# Altium schematic symbol library MCU_ST_STM32L4.SchLib: 320 symbols (part 6 of 9)
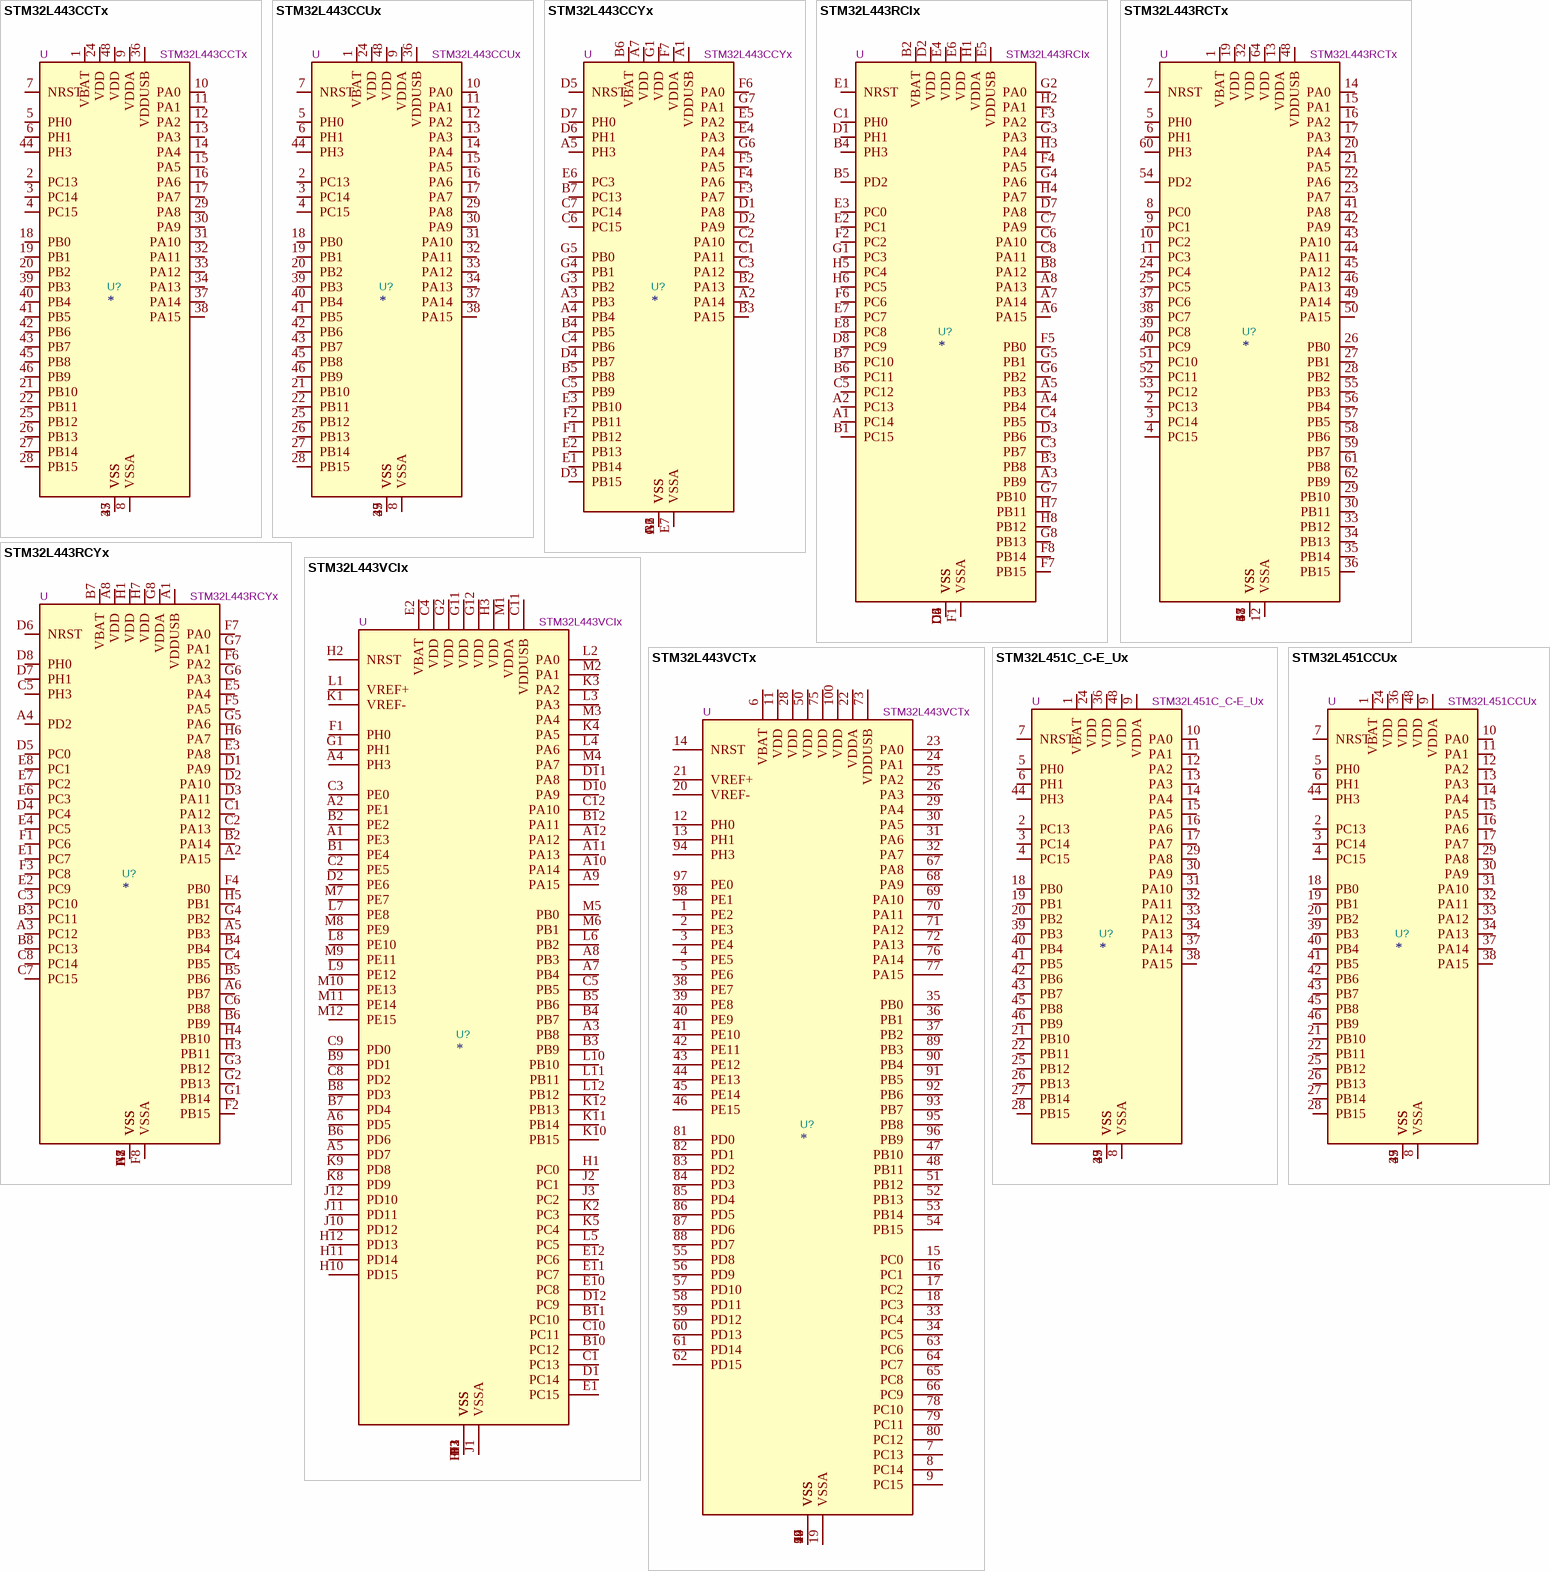
[diagram p68: symbols STM32L443CCTx to STM32L451CCUx]

## STM32L443CCTx
designator U?  value STM32L443CCTx  Reference: U
STMicroelectronics Arm Cortex-M4 MCU, 256KB flash, 64KB RAM, 80 MHz, 1.71-3.6V, 38 GPIO, LQFP48; ki_keywords: Arm Cortex-M4 STM32L4 STM32L4x3; ki_fp_filters: LQFP*7x7mm*P0.5mm*; Footprint: Package_QFP:LQFP-48_7x7mm_P0.5mm; Datasheet: https://www.st.com/resource/en/datasheet/stm32l443cc.pdf; Description_: STMicroelectronics Arm Cortex-M4 MCU, 256KB flash, 64KB RAM, 80 MHz, 1.71-3.6V, 38 GPIO, LQFP48
pins: 1 VBAT, 2 PC13, 3 PC14, 4 PC15, 5 PH0, 6 PH1, 7 NRST, 8 VSSA, 9 VDDA, 10 PA0, 11 PA1, 12 PA2, 13 PA3, 14 PA4, 15 PA5, 16 PA6, 17 PA7, 18 PB0, 19 PB1, 20 PB2, 21 PB10, 22 PB11, 23 VSS, 24 VDD, 25 PB12, 26 PB13, 27 PB14, 28 PB15, 29 PA8, 30 PA9, 31 PA10, 32 PA11, 33 PA12, 34 PA13, 35 VSS, 36 VDDUSB, 37 PA14, 38 PA15, 39 PB3, 40 PB4, 41 PB5, 42 PB6, 43 PB7, 44 PH3, 45 PB8, 46 PB9, 47 VSS, 48 VDD

## STM32L443CCUx
designator U?  value STM32L443CCUx  Reference: U
STMicroelectronics Arm Cortex-M4 MCU, 256KB flash, 64KB RAM, 80 MHz, 1.71-3.6V, 38 GPIO, UFQFPN48; ki_keywords: Arm Cortex-M4 STM32L4 STM32L4x3; ki_fp_filters: QFN*1EP*7x7mm*P0.5mm*; Footprint: Package_DFN_QFN:QFN-48-1EP_7x7mm_P0.5mm_EP5.6x5.6mm; Datasheet: https://www.st.com/resource/en/datasheet/stm32l443cc.pdf; Description_: STMicroelectronics Arm Cortex-M4 MCU, 256KB flash, 64KB RAM, 80 MHz, 1.71-3.6V, 38 GPIO, UFQFPN48
pins: 1 VBAT, 2 PC13, 3 PC14, 4 PC15, 5 PH0, 6 PH1, 7 NRST, 8 VSSA, 9 VDDA, 10 PA0, 11 PA1, 12 PA2, 13 PA3, 14 PA4, 15 PA5, 16 PA6, 17 PA7, 18 PB0, 19 PB1, 20 PB2, 21 PB10, 22 PB11, 23 VSS, 24 VDD, 25 PB12, 26 PB13, 27 PB14, 28 PB15, 29 PA8, 30 PA9, 31 PA10, 32 PA11, 33 PA12, 34 PA13, 35 VSS, 36 VDDUSB, 37 PA14, 38 PA15, 39 PB3, 40 PB4, 41 PB5, 42 PB6, 43 PB7, 44 PH3, 45 PB8, 46 PB9, 47 VSS, 48 VDD, 49 VSS

## STM32L443CCYx
designator U?  value STM32L443CCYx  Reference: U
STMicroelectronics Arm Cortex-M4 MCU, 256KB flash, 64KB RAM, 80 MHz, 1.71-3.6V, 39 GPIO, WLCSP49; ki_keywords: Arm Cortex-M4 STM32L4 STM32L4x3; ki_fp_filters: ST*WLCSP*Die435*; Footprint: Package_CSP:ST_WLCSP-49_Die435; Datasheet: https://www.st.com/resource/en/datasheet/stm32l443cc.pdf; Description_: STMicroelectronics Arm Cortex-M4 MCU, 256KB flash, 64KB RAM, 80 MHz, 1.71-3.6V, 39 GPIO, WLCSP49
pins: A1 VDDUSB, A2 PA14, A3 PB3, A4 PB4, A5 PH3, A6 VSS, A7 VDD, B1 VSS, B2 PA13, B3 PA15, B4 PB5, B5 PB8, B6 VBAT, B7 PC13, C1 PA11, C2 PA10, C3 PA12, C4 PB6, C5 PB9, C6 PC15, C7 PC14, D1 PA8, D2 PA9, D3 PB15, D4 PB7, D5 NRST, D6 PH1, D7 PH0, E1 PB14, E2 PB13, E3 PB10, E4 PA3, E5 PA2, E6 PC3, E7 VSSA, F1 PB12, F2 PB11, F3 PA7, F4 PA6, F5 PA5, F6 PA0, F7 VDDA, G1 VDD, G2 VSS, G3 PB2, G4 PB1, G5 PB0, G6 PA4, G7 PA1

## STM32L443RCIx
designator U?  value STM32L443RCIx  Reference: U
STMicroelectronics Arm Cortex-M4 MCU, 256KB flash, 64KB RAM, 80 MHz, 1.71-3.6V, 52 GPIO, UFBGA64; ki_keywords: Arm Cortex-M4 STM32L4 STM32L4x3; ki_fp_filters: UFBGA*5x5mm*Layout8x8*P0.5mm*; Footprint: Package_BGA:UFBGA-64_5x5mm_Layout8x8_P0.5mm; Datasheet: https://www.st.com/resource/en/datasheet/stm32l443rc.pdf; Description_: STMicroelectronics Arm Cortex-M4 MCU, 256KB flash, 64KB RAM, 80 MHz, 1.71-3.6V, 52 GPIO, UFBGA64
pins: A1 PC14, A2 PC13, A3 PB9, A4 PB4, A5 PB3, A6 PA15, A7 PA14, A8 PA13, B1 PC15, B2 VBAT, B3 PB8, B4 PH3, B5 PD2, B6 PC11, B7 PC10, B8 PA12, C1 PH0, C2 VSS, C3 PB7, C4 PB5, C5 PC12, C6 PA10, C7 PA9, C8 PA11, D1 PH1, D2 VDD, D3 PB6, D4 VSS, D5 VSS, D6 VSS, D7 PA8, D8 PC9, E1 NRST, E2 PC1, E3 PC0, E4 VDD, E5 VDDUSB, E6 VDD, E7 PC7, E8 PC8, F1 VSSA, F2 PC2, F3 PA2, F4 PA5, F5 PB0, F6 PC6, F7 PB15, F8 PB14, G1 PC3, G2 PA0, G3 PA3, G4 PA6, G5 PB1, G6 PB2, G7 PB10, G8 PB13, H1 VDDA, H2 PA1, H3 PA4, H4 PA7, H5 PC4, H6 PC5, H7 PB11, H8 PB12

## STM32L443RCTx
designator U?  value STM32L443RCTx  Reference: U
STMicroelectronics Arm Cortex-M4 MCU, 256KB flash, 64KB RAM, 80 MHz, 1.71-3.6V, 52 GPIO, LQFP64; ki_keywords: Arm Cortex-M4 STM32L4 STM32L4x3; ki_fp_filters: LQFP*10x10mm*P0.5mm*; Footprint: Package_QFP:LQFP-64_10x10mm_P0.5mm; Datasheet: https://www.st.com/resource/en/datasheet/stm32l443rc.pdf; Description_: STMicroelectronics Arm Cortex-M4 MCU, 256KB flash, 64KB RAM, 80 MHz, 1.71-3.6V, 52 GPIO, LQFP64
pins: 1 VBAT, 2 PC13, 3 PC14, 4 PC15, 5 PH0, 6 PH1, 7 NRST, 8 PC0, 9 PC1, 10 PC2, 11 PC3, 12 VSSA, 13 VDDA, 14 PA0, 15 PA1, 16 PA2, 17 PA3, 18 VSS, 19 VDD, 20 PA4, 21 PA5, 22 PA6, 23 PA7, 24 PC4, 25 PC5, 26 PB0, 27 PB1, 28 PB2, 29 PB10, 30 PB11, 31 VSS, 32 VDD, 33 PB12, 34 PB13, 35 PB14, 36 PB15, 37 PC6, 38 PC7, 39 PC8, 40 PC9, 41 PA8, 42 PA9, 43 PA10, 44 PA11, 45 PA12, 46 PA13, 47 VSS, 48 VDDUSB, 49 PA14, 50 PA15, 51 PC10, 52 PC11, 53 PC12, 54 PD2, 55 PB3, 56 PB4, 57 PB5, 58 PB6, 59 PB7, 60 PH3, 61 PB8, 62 PB9, 63 VSS, 64 VDD

## STM32L443RCYx
designator U?  value STM32L443RCYx  Reference: U
STMicroelectronics Arm Cortex-M4 MCU, 256KB flash, 64KB RAM, 80 MHz, 1.71-3.6V, 52 GPIO, WLCSP64; ki_keywords: Arm Cortex-M4 STM32L4 STM32L4x3; ki_fp_filters: ST*WLCSP*Die435*; Footprint: Package_CSP:ST_WLCSP-64_Die435; Datasheet: https://www.st.com/resource/en/datasheet/stm32l443rc.pdf; Description_: STMicroelectronics Arm Cortex-M4 MCU, 256KB flash, 64KB RAM, 80 MHz, 1.71-3.6V, 52 GPIO, WLCSP64
pins: A1 VDDUSB, A2 PA15, A3 PC12, A4 PD2, A5 PB3, A6 PB7, A7 VSS, A8 VDD, B1 VSS, B2 PA14, B3 PC11, B4 PB4, B5 PB6, B6 PB9, B7 VBAT, B8 PC13, C1 PA12, C2 PA13, C3 PC10, C4 PB5, C5 PH3, C6 PB8, C7 PC15, C8 PC14, D1 PA9, D2 PA10, D3 PA11, D4 PC4, D5 PC0, D6 NRST, D7 PH1, D8 PH0, E1 PC7, E2 PC9, E3 PA8, E4 PC5, E5 PA4, E6 PC3, E7 PC2, E8 PC1, F1 PC6, F2 PB15, F3 PC8, F4 PB0, F5 PA5, F6 PA2, F7 PA0, F8 VSSA, G1 PB14, G2 PB13, G3 PB12, G4 PB2, G5 PA6, G6 PA3, G7 PA1, G8 VDDA, H1 VDD, H2 VSS, H3 PB11, H4 PB10, H5 PB1, H6 PA7, H7 VDD, H8 VSS

## STM32L443VCIx
designator U?  value STM32L443VCIx  Reference: U
STMicroelectronics Arm Cortex-M4 MCU, 256KB flash, 64KB RAM, 80 MHz, 1.71-3.6V, 83 GPIO, UFBGA100; ki_keywords: Arm Cortex-M4 STM32L4 STM32L4x3; ki_fp_filters: UFBGA*7x7mm*Layout12x12*P0.5mm*; Footprint: Package_BGA:UFBGA-100_7x7mm_Layout12x12_P0.5mm; Datasheet: https://www.st.com/resource/en/datasheet/stm32l443vc.pdf; Description_: STMicroelectronics Arm Cortex-M4 MCU, 256KB flash, 64KB RAM, 80 MHz, 1.71-3.6V, 83 GPIO, UFBGA100
pins: A1 PE3, A2 PE1, A3 PB8, A4 PH3, A5 PD7, A6 PD5, A7 PB4, A8 PB3, A9 PA15, A10 PA14, A11 PA13, A12 PA12, B1 PE4, B2 PE2, B3 PB9, B4 PB7, B5 PB6, B6 PD6, B7 PD4, B8 PD3, B9 PD1, B10 PC12, B11 PC10, B12 PA11, C1 PC13, C2 PE5, C3 PE0, C4 VDD, C5 PB5, C8 PD2, C9 PD0, C10 PC11, C11 VDDUSB, C12 PA10, D1 PC14, D2 PE6, D3 VSS, D10 PA9, D11 PA8, D12 PC9, E1 PC15, E2 VBAT, E3 VSS, E10 PC8, E11 PC7, E12 PC6, F1 PH0, F2 VSS, F11 VSS, F12 VSS, G1 PH1, G2 VDD, G11 VDD, G12 VDD, H1 PC0, H2 NRST, H3 VDD, H10 PD15, H11 PD14, H12 PD13, J1 VSSA, J2 PC1, J3 PC2, J10 PD12, J11 PD11, J12 PD10, K1 VREF-, K2 PC3, K3 PA2, K4 PA5, K5 PC4, K8 PD9, K9 PD8, K10 PB15, K11 PB14, K12 PB13, L1 VREF+, L2 PA0, L3 PA3, L4 PA6, L5 PC5, L6 PB2, L7 PE8, L8 PE10, L9 PE12, L10 PB10, L11 PB11, L12 PB12, M1 VDDA, M2 PA1, M3 PA4, M4 PA7, M5 PB0, M6 PB1, M7 PE7, M8 PE9, M9 PE11, M10 PE13, M11 PE14, M12 PE15

## STM32L443VCTx
designator U?  value STM32L443VCTx  Reference: U
STMicroelectronics Arm Cortex-M4 MCU, 256KB flash, 64KB RAM, 80 MHz, 1.71-3.6V, 83 GPIO, LQFP100; ki_keywords: Arm Cortex-M4 STM32L4 STM32L4x3; ki_fp_filters: LQFP*14x14mm*P0.5mm*; Footprint: Package_QFP:LQFP-100_14x14mm_P0.5mm; Datasheet: https://www.st.com/resource/en/datasheet/stm32l443vc.pdf; Description_: STMicroelectronics Arm Cortex-M4 MCU, 256KB flash, 64KB RAM, 80 MHz, 1.71-3.6V, 83 GPIO, LQFP100
pins: 1 PE2, 2 PE3, 3 PE4, 4 PE5, 5 PE6, 6 VBAT, 7 PC13, 8 PC14, 9 PC15, 10 VSS, 11 VDD, 12 PH0, 13 PH1, 14 NRST, 15 PC0, 16 PC1, 17 PC2, 18 PC3, 19 VSSA, 20 VREF-, 21 VREF+, 22 VDDA, 23 PA0, 24 PA1, 25 PA2, 26 PA3, 27 VSS, 28 VDD, 29 PA4, 30 PA5, 31 PA6, 32 PA7, 33 PC4, 34 PC5, 35 PB0, 36 PB1, 37 PB2, 38 PE7, 39 PE8, 40 PE9, 41 PE10, 42 PE11, 43 PE12, 44 PE13, 45 PE14, 46 PE15, 47 PB10, 48 PB11, 49 VSS, 50 VDD, 51 PB12, 52 PB13, 53 PB14, 54 PB15, 55 PD8, 56 PD9, 57 PD10, 58 PD11, 59 PD12, 60 PD13, 61 PD14, 62 PD15, 63 PC6, 64 PC7, 65 PC8, 66 PC9, 67 PA8, 68 PA9, 69 PA10, 70 PA11, 71 PA12, 72 PA13, 73 VDDUSB, 74 VSS, 75 VDD, 76 PA14, 77 PA15, 78 PC10, 79 PC11, 80 PC12, 81 PD0, 82 PD1, 83 PD2, 84 PD3, 85 PD4, 86 PD5, 87 PD6, 88 PD7, 89 PB3, 90 PB4, 91 PB5, 92 PB6, 93 PB7, 94 PH3, 95 PB8, 96 PB9, 97 PE0, 98 PE1, 99 VSS, 100 VDD

## STM32L451C_C-E_Ux
designator U?  value STM32L451C_C-E_Ux  Reference: U
STMicroelectronics Arm Cortex-M4 MCU, 256-512KB flash, 160KB RAM, 80 MHz, 1.71-3.6V, 38 GPIO, UFQFPN48; ki_keywords: Arm Cortex-M4 STM32L4 STM32L4x1; ki_fp_filters: QFN*1EP*7x7mm*P0.5mm*; Footprint: Package_DFN_QFN:QFN-48-1EP_7x7mm_P0.5mm_EP5.6x5.6mm; Datasheet: https://www.st.com/resource/en/datasheet/stm32l451cc.pdf; Description_: STMicroelectronics Arm Cortex-M4 MCU, 256-512KB flash, 160KB RAM, 80 MHz, 1.71-3.6V, 38 GPIO, UFQFPN48
pins: 1 VBAT, 2 PC13, 3 PC14, 4 PC15, 5 PH0, 6 PH1, 7 NRST, 8 VSSA, 9 VDDA, 10 PA0, 11 PA1, 12 PA2, 13 PA3, 14 PA4, 15 PA5, 16 PA6, 17 PA7, 18 PB0, 19 PB1, 20 PB2, 21 PB10, 22 PB11, 23 VSS, 24 VDD, 25 PB12, 26 PB13, 27 PB14, 28 PB15, 29 PA8, 30 PA9, 31 PA10, 32 PA11, 33 PA12, 34 PA13, 35 VSS, 36 VDD, 37 PA14, 38 PA15, 39 PB3, 40 PB4, 41 PB5, 42 PB6, 43 PB7, 44 PH3, 45 PB8, 46 PB9, 47 VSS, 48 VDD, 49 VSS

## STM32L451CCUx
designator U?  value STM32L451CCUx  Reference: U
STMicroelectronics Arm Cortex-M4 MCU, 256KB flash, 160KB RAM, 80 MHz, 1.71-3.6V, 38 GPIO, UFQFPN48; ki_keywords: Arm Cortex-M4 STM32L4 STM32L4x1; ki_fp_filters: QFN*1EP*7x7mm*P0.5mm*; Footprint: Package_DFN_QFN:QFN-48-1EP_7x7mm_P0.5mm_EP5.6x5.6mm; Datasheet: https://www.st.com/resource/en/datasheet/stm32l451cc.pdf; Description_: STMicroelectronics Arm Cortex-M4 MCU, 256KB flash, 160KB RAM, 80 MHz, 1.71-3.6V, 38 GPIO, UFQFPN48
pins: 1 VBAT, 2 PC13, 3 PC14, 4 PC15, 5 PH0, 6 PH1, 7 NRST, 8 VSSA, 9 VDDA, 10 PA0, 11 PA1, 12 PA2, 13 PA3, 14 PA4, 15 PA5, 16 PA6, 17 PA7, 18 PB0, 19 PB1, 20 PB2, 21 PB10, 22 PB11, 23 VSS, 24 VDD, 25 PB12, 26 PB13, 27 PB14, 28 PB15, 29 PA8, 30 PA9, 31 PA10, 32 PA11, 33 PA12, 34 PA13, 35 VSS, 36 VDD, 37 PA14, 38 PA15, 39 PB3, 40 PB4, 41 PB5, 42 PB6, 43 PB7, 44 PH3, 45 PB8, 46 PB9, 47 VSS, 48 VDD, 49 VSS

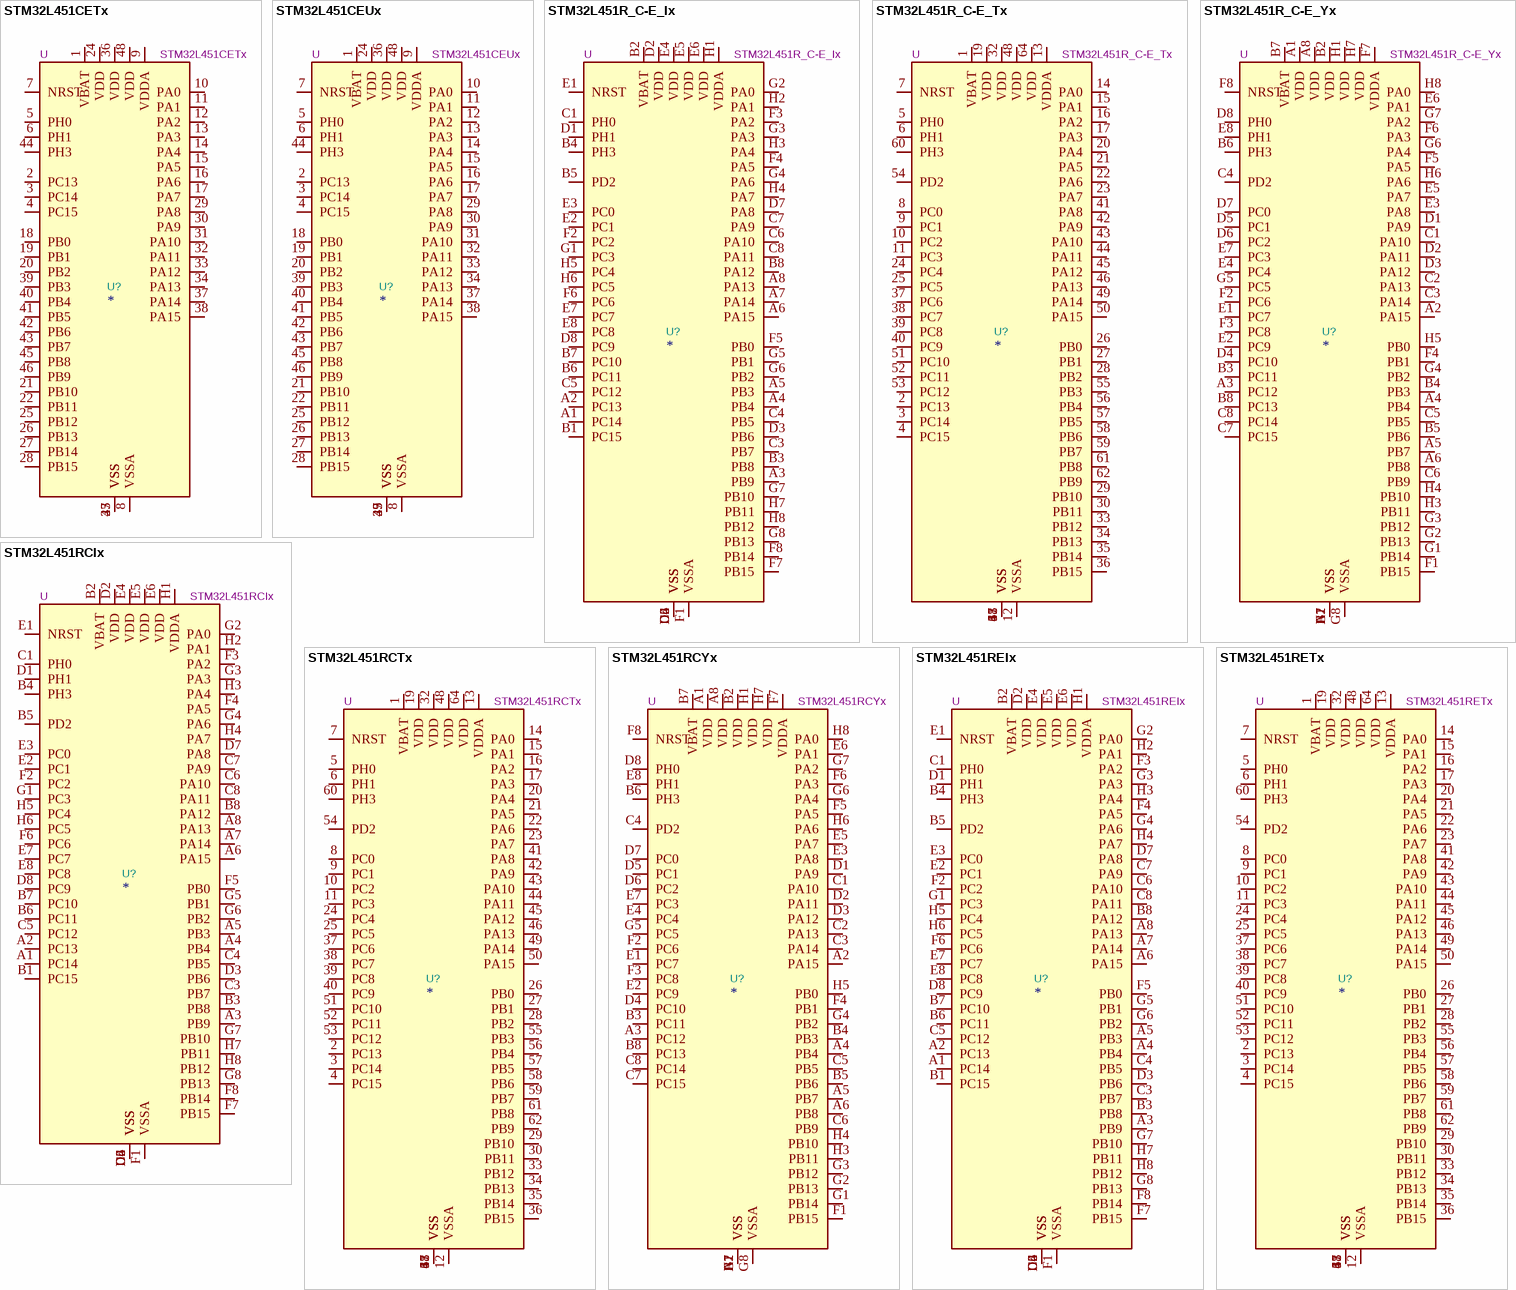
[diagram p40: symbols STM32L451CETx to STM32L451RETx]

## STM32L451CETx
designator U?  value STM32L451CETx  Reference: U
STMicroelectronics Arm Cortex-M4 MCU, 512KB flash, 160KB RAM, 80 MHz, 1.71-3.6V, 38 GPIO, LQFP48; ki_keywords: Arm Cortex-M4 STM32L4 STM32L4x1; ki_fp_filters: LQFP*7x7mm*P0.5mm*; Footprint: Package_QFP:LQFP-48_7x7mm_P0.5mm; Datasheet: https://www.st.com/resource/en/datasheet/stm32l451ce.pdf; Description_: STMicroelectronics Arm Cortex-M4 MCU, 512KB flash, 160KB RAM, 80 MHz, 1.71-3.6V, 38 GPIO, LQFP48
pins: 1 VBAT, 2 PC13, 3 PC14, 4 PC15, 5 PH0, 6 PH1, 7 NRST, 8 VSSA, 9 VDDA, 10 PA0, 11 PA1, 12 PA2, 13 PA3, 14 PA4, 15 PA5, 16 PA6, 17 PA7, 18 PB0, 19 PB1, 20 PB2, 21 PB10, 22 PB11, 23 VSS, 24 VDD, 25 PB12, 26 PB13, 27 PB14, 28 PB15, 29 PA8, 30 PA9, 31 PA10, 32 PA11, 33 PA12, 34 PA13, 35 VSS, 36 VDD, 37 PA14, 38 PA15, 39 PB3, 40 PB4, 41 PB5, 42 PB6, 43 PB7, 44 PH3, 45 PB8, 46 PB9, 47 VSS, 48 VDD

## STM32L451CEUx
designator U?  value STM32L451CEUx  Reference: U
STMicroelectronics Arm Cortex-M4 MCU, 512KB flash, 160KB RAM, 80 MHz, 1.71-3.6V, 38 GPIO, UFQFPN48; ki_keywords: Arm Cortex-M4 STM32L4 STM32L4x1; ki_fp_filters: QFN*1EP*7x7mm*P0.5mm*; Footprint: Package_DFN_QFN:QFN-48-1EP_7x7mm_P0.5mm_EP5.6x5.6mm; Datasheet: https://www.st.com/resource/en/datasheet/stm32l451ce.pdf; Description_: STMicroelectronics Arm Cortex-M4 MCU, 512KB flash, 160KB RAM, 80 MHz, 1.71-3.6V, 38 GPIO, UFQFPN48
pins: 1 VBAT, 2 PC13, 3 PC14, 4 PC15, 5 PH0, 6 PH1, 7 NRST, 8 VSSA, 9 VDDA, 10 PA0, 11 PA1, 12 PA2, 13 PA3, 14 PA4, 15 PA5, 16 PA6, 17 PA7, 18 PB0, 19 PB1, 20 PB2, 21 PB10, 22 PB11, 23 VSS, 24 VDD, 25 PB12, 26 PB13, 27 PB14, 28 PB15, 29 PA8, 30 PA9, 31 PA10, 32 PA11, 33 PA12, 34 PA13, 35 VSS, 36 VDD, 37 PA14, 38 PA15, 39 PB3, 40 PB4, 41 PB5, 42 PB6, 43 PB7, 44 PH3, 45 PB8, 46 PB9, 47 VSS, 48 VDD, 49 VSS

## STM32L451R_C-E_Ix
designator U?  value STM32L451R_C-E_Ix  Reference: U
STMicroelectronics Arm Cortex-M4 MCU, 256-512KB flash, 160KB RAM, 80 MHz, 1.71-3.6V, 52 GPIO, UFBGA64; ki_keywords: Arm Cortex-M4 STM32L4 STM32L4x1; ki_fp_filters: UFBGA*5x5mm*Layout8x8*P0.5mm*; Footprint: Package_BGA:UFBGA-64_5x5mm_Layout8x8_P0.5mm; Datasheet: https://www.st.com/resource/en/datasheet/stm32l451rc.pdf; Description_: STMicroelectronics Arm Cortex-M4 MCU, 256-512KB flash, 160KB RAM, 80 MHz, 1.71-3.6V, 52 GPIO, UFBGA64
pins: A1 PC14, A2 PC13, A3 PB9, A4 PB4, A5 PB3, A6 PA15, A7 PA14, A8 PA13, B1 PC15, B2 VBAT, B3 PB8, B4 PH3, B5 PD2, B6 PC11, B7 PC10, B8 PA12, C1 PH0, C2 VSS, C3 PB7, C4 PB5, C5 PC12, C6 PA10, C7 PA9, C8 PA11, D1 PH1, D2 VDD, D3 PB6, D4 VSS, D5 VSS, D6 VSS, D7 PA8, D8 PC9, E1 NRST, E2 PC1, E3 PC0, E4 VDD, E5 VDD, E6 VDD, E7 PC7, E8 PC8, F1 VSSA, F2 PC2, F3 PA2, F4 PA5, F5 PB0, F6 PC6, F7 PB15, F8 PB14, G1 PC3, G2 PA0, G3 PA3, G4 PA6, G5 PB1, G6 PB2, G7 PB10, G8 PB13, H1 VDDA, H2 PA1, H3 PA4, H4 PA7, H5 PC4, H6 PC5, H7 PB11, H8 PB12

## STM32L451R_C-E_Tx
designator U?  value STM32L451R_C-E_Tx  Reference: U
STMicroelectronics Arm Cortex-M4 MCU, 256-512KB flash, 160KB RAM, 80 MHz, 1.71-3.6V, 52 GPIO, LQFP64; ki_keywords: Arm Cortex-M4 STM32L4 STM32L4x1; ki_fp_filters: LQFP*10x10mm*P0.5mm*; Footprint: Package_QFP:LQFP-64_10x10mm_P0.5mm; Datasheet: https://www.st.com/resource/en/datasheet/stm32l451rc.pdf; Description_: STMicroelectronics Arm Cortex-M4 MCU, 256-512KB flash, 160KB RAM, 80 MHz, 1.71-3.6V, 52 GPIO, LQFP64
pins: 1 VBAT, 2 PC13, 3 PC14, 4 PC15, 5 PH0, 6 PH1, 7 NRST, 8 PC0, 9 PC1, 10 PC2, 11 PC3, 12 VSSA, 13 VDDA, 14 PA0, 15 PA1, 16 PA2, 17 PA3, 18 VSS, 19 VDD, 20 PA4, 21 PA5, 22 PA6, 23 PA7, 24 PC4, 25 PC5, 26 PB0, 27 PB1, 28 PB2, 29 PB10, 30 PB11, 31 VSS, 32 VDD, 33 PB12, 34 PB13, 35 PB14, 36 PB15, 37 PC6, 38 PC7, 39 PC8, 40 PC9, 41 PA8, 42 PA9, 43 PA10, 44 PA11, 45 PA12, 46 PA13, 47 VSS, 48 VDD, 49 PA14, 50 PA15, 51 PC10, 52 PC11, 53 PC12, 54 PD2, 55 PB3, 56 PB4, 57 PB5, 58 PB6, 59 PB7, 60 PH3, 61 PB8, 62 PB9, 63 VSS, 64 VDD

## STM32L451R_C-E_Yx
designator U?  value STM32L451R_C-E_Yx  Reference: U
STMicroelectronics Arm Cortex-M4 MCU, 256-512KB flash, 160KB RAM, 80 MHz, 1.71-3.6V, 52 GPIO, WLCSP64; ki_keywords: Arm Cortex-M4 STM32L4 STM32L4x1; ki_fp_filters: ST*WLCSP*Die462*; Footprint: Package_CSP:ST_WLCSP-64_Die462; Datasheet: https://www.st.com/resource/en/datasheet/stm32l451rc.pdf; Description_: STMicroelectronics Arm Cortex-M4 MCU, 256-512KB flash, 160KB RAM, 80 MHz, 1.71-3.6V, 52 GPIO, WLCSP64
pins: A1 VDD, A2 PA15, A3 PC12, A4 PB4, A5 PB7, A6 PB8, A7 VSS, A8 VDD, B1 VSS, B2 VDD, B3 PC11, B4 PB3, B5 PB6, B6 PH3, B7 VBAT, B8 PC13, C1 PA10, C2 PA13, C3 PA14, C4 PD2, C5 PB5, C6 PB9, C7 PC15, C8 PC14, D1 PA9, D2 PA11, D3 PA12, D4 PC10, D5 PC1, D6 PC2, D7 PC0, D8 PH0, E1 PC7, E2 PC9, E3 PA8, E4 PC4, E5 PA7, E6 PA1, E7 PC3, E8 PH1, F1 PB15, F2 PC6, F3 PC8, F4 PB1, F5 PA5, F6 PA3, F7 VDDA, F8 NRST, G1 PB14, G2 PB13, G3 PB12, G4 PB2, G5 PC5, G6 PA4, G7 PA2, G8 VSSA, H1 VDD, H2 VSS, H3 PB11, H4 PB10, H5 PB0, H6 PA6, H7 VDD, H8 PA0

## STM32L451RCIx
designator U?  value STM32L451RCIx  Reference: U
STMicroelectronics Arm Cortex-M4 MCU, 256KB flash, 160KB RAM, 80 MHz, 1.71-3.6V, 52 GPIO, UFBGA64; ki_keywords: Arm Cortex-M4 STM32L4 STM32L4x1; ki_fp_filters: UFBGA*5x5mm*Layout8x8*P0.5mm*; Footprint: Package_BGA:UFBGA-64_5x5mm_Layout8x8_P0.5mm; Datasheet: https://www.st.com/resource/en/datasheet/stm32l451rc.pdf; Description_: STMicroelectronics Arm Cortex-M4 MCU, 256KB flash, 160KB RAM, 80 MHz, 1.71-3.6V, 52 GPIO, UFBGA64
pins: A1 PC14, A2 PC13, A3 PB9, A4 PB4, A5 PB3, A6 PA15, A7 PA14, A8 PA13, B1 PC15, B2 VBAT, B3 PB8, B4 PH3, B5 PD2, B6 PC11, B7 PC10, B8 PA12, C1 PH0, C2 VSS, C3 PB7, C4 PB5, C5 PC12, C6 PA10, C7 PA9, C8 PA11, D1 PH1, D2 VDD, D3 PB6, D4 VSS, D5 VSS, D6 VSS, D7 PA8, D8 PC9, E1 NRST, E2 PC1, E3 PC0, E4 VDD, E5 VDD, E6 VDD, E7 PC7, E8 PC8, F1 VSSA, F2 PC2, F3 PA2, F4 PA5, F5 PB0, F6 PC6, F7 PB15, F8 PB14, G1 PC3, G2 PA0, G3 PA3, G4 PA6, G5 PB1, G6 PB2, G7 PB10, G8 PB13, H1 VDDA, H2 PA1, H3 PA4, H4 PA7, H5 PC4, H6 PC5, H7 PB11, H8 PB12

## STM32L451RCTx
designator U?  value STM32L451RCTx  Reference: U
STMicroelectronics Arm Cortex-M4 MCU, 256KB flash, 160KB RAM, 80 MHz, 1.71-3.6V, 52 GPIO, LQFP64; ki_keywords: Arm Cortex-M4 STM32L4 STM32L4x1; ki_fp_filters: LQFP*10x10mm*P0.5mm*; Footprint: Package_QFP:LQFP-64_10x10mm_P0.5mm; Datasheet: https://www.st.com/resource/en/datasheet/stm32l451rc.pdf; Description_: STMicroelectronics Arm Cortex-M4 MCU, 256KB flash, 160KB RAM, 80 MHz, 1.71-3.6V, 52 GPIO, LQFP64
pins: 1 VBAT, 2 PC13, 3 PC14, 4 PC15, 5 PH0, 6 PH1, 7 NRST, 8 PC0, 9 PC1, 10 PC2, 11 PC3, 12 VSSA, 13 VDDA, 14 PA0, 15 PA1, 16 PA2, 17 PA3, 18 VSS, 19 VDD, 20 PA4, 21 PA5, 22 PA6, 23 PA7, 24 PC4, 25 PC5, 26 PB0, 27 PB1, 28 PB2, 29 PB10, 30 PB11, 31 VSS, 32 VDD, 33 PB12, 34 PB13, 35 PB14, 36 PB15, 37 PC6, 38 PC7, 39 PC8, 40 PC9, 41 PA8, 42 PA9, 43 PA10, 44 PA11, 45 PA12, 46 PA13, 47 VSS, 48 VDD, 49 PA14, 50 PA15, 51 PC10, 52 PC11, 53 PC12, 54 PD2, 55 PB3, 56 PB4, 57 PB5, 58 PB6, 59 PB7, 60 PH3, 61 PB8, 62 PB9, 63 VSS, 64 VDD

## STM32L451RCYx
designator U?  value STM32L451RCYx  Reference: U
STMicroelectronics Arm Cortex-M4 MCU, 256KB flash, 160KB RAM, 80 MHz, 1.71-3.6V, 52 GPIO, WLCSP64; ki_keywords: Arm Cortex-M4 STM32L4 STM32L4x1; ki_fp_filters: ST*WLCSP*Die462*; Footprint: Package_CSP:ST_WLCSP-64_Die462; Datasheet: https://www.st.com/resource/en/datasheet/stm32l451rc.pdf; Description_: STMicroelectronics Arm Cortex-M4 MCU, 256KB flash, 160KB RAM, 80 MHz, 1.71-3.6V, 52 GPIO, WLCSP64
pins: A1 VDD, A2 PA15, A3 PC12, A4 PB4, A5 PB7, A6 PB8, A7 VSS, A8 VDD, B1 VSS, B2 VDD, B3 PC11, B4 PB3, B5 PB6, B6 PH3, B7 VBAT, B8 PC13, C1 PA10, C2 PA13, C3 PA14, C4 PD2, C5 PB5, C6 PB9, C7 PC15, C8 PC14, D1 PA9, D2 PA11, D3 PA12, D4 PC10, D5 PC1, D6 PC2, D7 PC0, D8 PH0, E1 PC7, E2 PC9, E3 PA8, E4 PC4, E5 PA7, E6 PA1, E7 PC3, E8 PH1, F1 PB15, F2 PC6, F3 PC8, F4 PB1, F5 PA5, F6 PA3, F7 VDDA, F8 NRST, G1 PB14, G2 PB13, G3 PB12, G4 PB2, G5 PC5, G6 PA4, G7 PA2, G8 VSSA, H1 VDD, H2 VSS, H3 PB11, H4 PB10, H5 PB0, H6 PA6, H7 VDD, H8 PA0

## STM32L451REIx
designator U?  value STM32L451REIx  Reference: U
STMicroelectronics Arm Cortex-M4 MCU, 512KB flash, 160KB RAM, 80 MHz, 1.71-3.6V, 52 GPIO, UFBGA64; ki_keywords: Arm Cortex-M4 STM32L4 STM32L4x1; ki_fp_filters: UFBGA*5x5mm*Layout8x8*P0.5mm*; Footprint: Package_BGA:UFBGA-64_5x5mm_Layout8x8_P0.5mm; Datasheet: https://www.st.com/resource/en/datasheet/stm32l451re.pdf; Description_: STMicroelectronics Arm Cortex-M4 MCU, 512KB flash, 160KB RAM, 80 MHz, 1.71-3.6V, 52 GPIO, UFBGA64
pins: A1 PC14, A2 PC13, A3 PB9, A4 PB4, A5 PB3, A6 PA15, A7 PA14, A8 PA13, B1 PC15, B2 VBAT, B3 PB8, B4 PH3, B5 PD2, B6 PC11, B7 PC10, B8 PA12, C1 PH0, C2 VSS, C3 PB7, C4 PB5, C5 PC12, C6 PA10, C7 PA9, C8 PA11, D1 PH1, D2 VDD, D3 PB6, D4 VSS, D5 VSS, D6 VSS, D7 PA8, D8 PC9, E1 NRST, E2 PC1, E3 PC0, E4 VDD, E5 VDD, E6 VDD, E7 PC7, E8 PC8, F1 VSSA, F2 PC2, F3 PA2, F4 PA5, F5 PB0, F6 PC6, F7 PB15, F8 PB14, G1 PC3, G2 PA0, G3 PA3, G4 PA6, G5 PB1, G6 PB2, G7 PB10, G8 PB13, H1 VDDA, H2 PA1, H3 PA4, H4 PA7, H5 PC4, H6 PC5, H7 PB11, H8 PB12

## STM32L451RETx
designator U?  value STM32L451RETx  Reference: U
STMicroelectronics Arm Cortex-M4 MCU, 512KB flash, 160KB RAM, 80 MHz, 1.71-3.6V, 52 GPIO, LQFP64; ki_keywords: Arm Cortex-M4 STM32L4 STM32L4x1; ki_fp_filters: LQFP*10x10mm*P0.5mm*; Footprint: Package_QFP:LQFP-64_10x10mm_P0.5mm; Datasheet: https://www.st.com/resource/en/datasheet/stm32l451re.pdf; Description_: STMicroelectronics Arm Cortex-M4 MCU, 512KB flash, 160KB RAM, 80 MHz, 1.71-3.6V, 52 GPIO, LQFP64
pins: 1 VBAT, 2 PC13, 3 PC14, 4 PC15, 5 PH0, 6 PH1, 7 NRST, 8 PC0, 9 PC1, 10 PC2, 11 PC3, 12 VSSA, 13 VDDA, 14 PA0, 15 PA1, 16 PA2, 17 PA3, 18 VSS, 19 VDD, 20 PA4, 21 PA5, 22 PA6, 23 PA7, 24 PC4, 25 PC5, 26 PB0, 27 PB1, 28 PB2, 29 PB10, 30 PB11, 31 VSS, 32 VDD, 33 PB12, 34 PB13, 35 PB14, 36 PB15, 37 PC6, 38 PC7, 39 PC8, 40 PC9, 41 PA8, 42 PA9, 43 PA10, 44 PA11, 45 PA12, 46 PA13, 47 VSS, 48 VDD, 49 PA14, 50 PA15, 51 PC10, 52 PC11, 53 PC12, 54 PD2, 55 PB3, 56 PB4, 57 PB5, 58 PB6, 59 PB7, 60 PH3, 61 PB8, 62 PB9, 63 VSS, 64 VDD

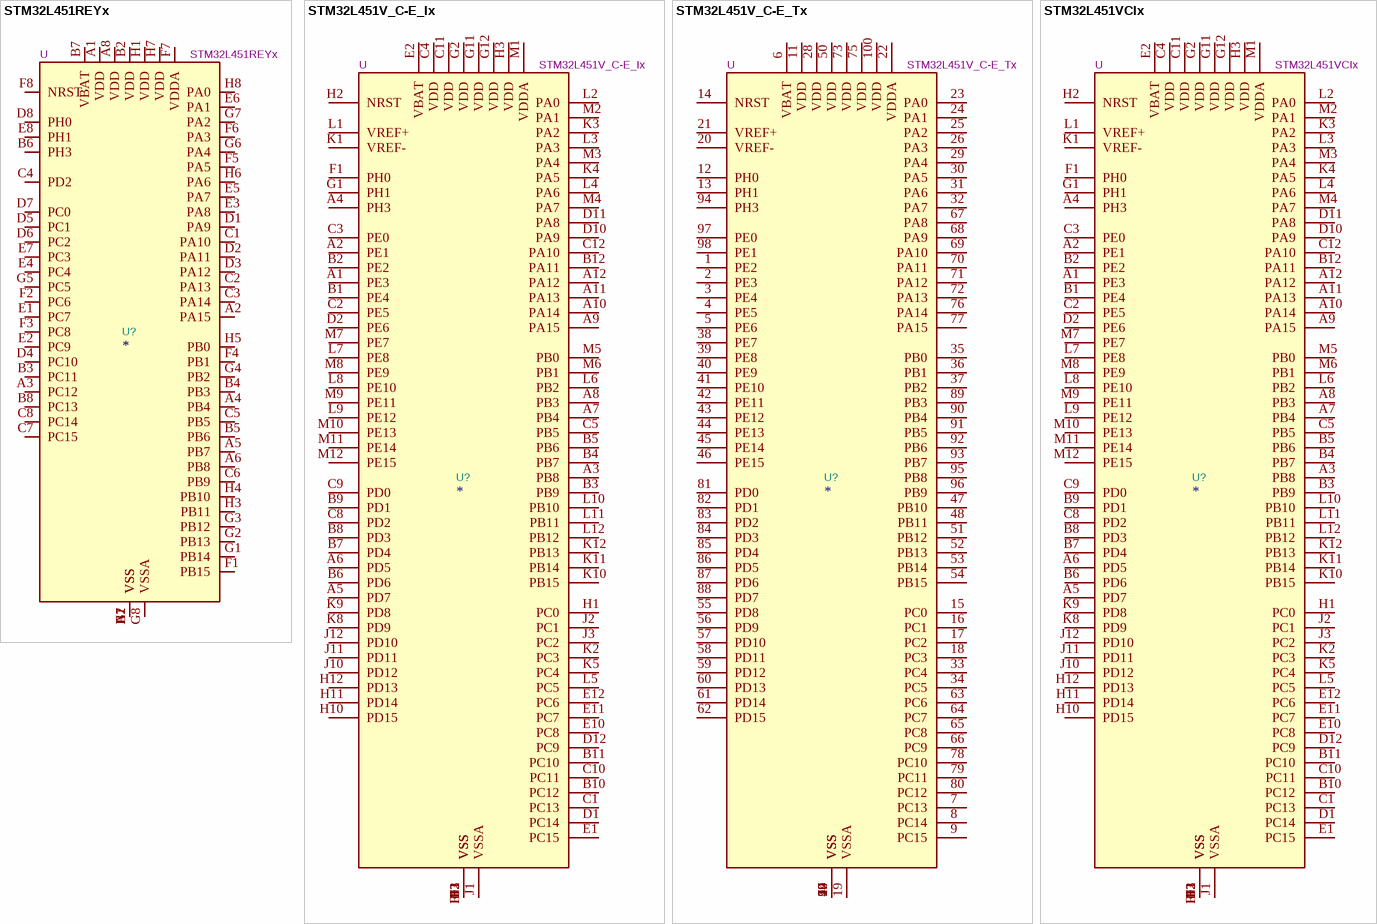
[diagram p41: symbols STM32L451REYx to STM32L451VCIx]

## STM32L451REYx
designator U?  value STM32L451REYx  Reference: U
STMicroelectronics Arm Cortex-M4 MCU, 512KB flash, 160KB RAM, 80 MHz, 1.71-3.6V, 52 GPIO, WLCSP64; ki_keywords: Arm Cortex-M4 STM32L4 STM32L4x1; ki_fp_filters: ST*WLCSP*Die462*; Footprint: Package_CSP:ST_WLCSP-64_Die462; Datasheet: https://www.st.com/resource/en/datasheet/stm32l451re.pdf; Description_: STMicroelectronics Arm Cortex-M4 MCU, 512KB flash, 160KB RAM, 80 MHz, 1.71-3.6V, 52 GPIO, WLCSP64
pins: A1 VDD, A2 PA15, A3 PC12, A4 PB4, A5 PB7, A6 PB8, A7 VSS, A8 VDD, B1 VSS, B2 VDD, B3 PC11, B4 PB3, B5 PB6, B6 PH3, B7 VBAT, B8 PC13, C1 PA10, C2 PA13, C3 PA14, C4 PD2, C5 PB5, C6 PB9, C7 PC15, C8 PC14, D1 PA9, D2 PA11, D3 PA12, D4 PC10, D5 PC1, D6 PC2, D7 PC0, D8 PH0, E1 PC7, E2 PC9, E3 PA8, E4 PC4, E5 PA7, E6 PA1, E7 PC3, E8 PH1, F1 PB15, F2 PC6, F3 PC8, F4 PB1, F5 PA5, F6 PA3, F7 VDDA, F8 NRST, G1 PB14, G2 PB13, G3 PB12, G4 PB2, G5 PC5, G6 PA4, G7 PA2, G8 VSSA, H1 VDD, H2 VSS, H3 PB11, H4 PB10, H5 PB0, H6 PA6, H7 VDD, H8 PA0

## STM32L451V_C-E_Ix
designator U?  value STM32L451V_C-E_Ix  Reference: U
STMicroelectronics Arm Cortex-M4 MCU, 256-512KB flash, 160KB RAM, 80 MHz, 1.71-3.6V, 83 GPIO, UFBGA100; ki_keywords: Arm Cortex-M4 STM32L4 STM32L4x1; ki_fp_filters: UFBGA*7x7mm*Layout12x12*P0.5mm*; Footprint: Package_BGA:UFBGA-100_7x7mm_Layout12x12_P0.5mm; Datasheet: https://www.st.com/resource/en/datasheet/stm32l451vc.pdf; Description_: STMicroelectronics Arm Cortex-M4 MCU, 256-512KB flash, 160KB RAM, 80 MHz, 1.71-3.6V, 83 GPIO, UFBGA100
pins: A1 PE3, A2 PE1, A3 PB8, A4 PH3, A5 PD7, A6 PD5, A7 PB4, A8 PB3, A9 PA15, A10 PA14, A11 PA13, A12 PA12, B1 PE4, B2 PE2, B3 PB9, B4 PB7, B5 PB6, B6 PD6, B7 PD4, B8 PD3, B9 PD1, B10 PC12, B11 PC10, B12 PA11, C1 PC13, C2 PE5, C3 PE0, C4 VDD, C5 PB5, C8 PD2, C9 PD0, C10 PC11, C11 VDD, C12 PA10, D1 PC14, D2 PE6, D3 VSS, D10 PA9, D11 PA8, D12 PC9, E1 PC15, E2 VBAT, E3 VSS, E10 PC8, E11 PC7, E12 PC6, F1 PH0, F2 VSS, F11 VSS, F12 VSS, G1 PH1, G2 VDD, G11 VDD, G12 VDD, H1 PC0, H2 NRST, H3 VDD, H10 PD15, H11 PD14, H12 PD13, J1 VSSA, J2 PC1, J3 PC2, J10 PD12, J11 PD11, J12 PD10, K1 VREF-, K2 PC3, K3 PA2, K4 PA5, K5 PC4, K8 PD9, K9 PD8, K10 PB15, K11 PB14, K12 PB13, L1 VREF+, L2 PA0, L3 PA3, L4 PA6, L5 PC5, L6 PB2, L7 PE8, L8 PE10, L9 PE12, L10 PB10, L11 PB11, L12 PB12, M1 VDDA, M2 PA1, M3 PA4, M4 PA7, M5 PB0, M6 PB1, M7 PE7, M8 PE9, M9 PE11, M10 PE13, M11 PE14, M12 PE15

## STM32L451V_C-E_Tx
designator U?  value STM32L451V_C-E_Tx  Reference: U
STMicroelectronics Arm Cortex-M4 MCU, 256-512KB flash, 160KB RAM, 80 MHz, 1.71-3.6V, 83 GPIO, LQFP100; ki_keywords: Arm Cortex-M4 STM32L4 STM32L4x1; ki_fp_filters: LQFP*14x14mm*P0.5mm*; Footprint: Package_QFP:LQFP-100_14x14mm_P0.5mm; Datasheet: https://www.st.com/resource/en/datasheet/stm32l451vc.pdf; Description_: STMicroelectronics Arm Cortex-M4 MCU, 256-512KB flash, 160KB RAM, 80 MHz, 1.71-3.6V, 83 GPIO, LQFP100
pins: 1 PE2, 2 PE3, 3 PE4, 4 PE5, 5 PE6, 6 VBAT, 7 PC13, 8 PC14, 9 PC15, 10 VSS, 11 VDD, 12 PH0, 13 PH1, 14 NRST, 15 PC0, 16 PC1, 17 PC2, 18 PC3, 19 VSSA, 20 VREF-, 21 VREF+, 22 VDDA, 23 PA0, 24 PA1, 25 PA2, 26 PA3, 27 VSS, 28 VDD, 29 PA4, 30 PA5, 31 PA6, 32 PA7, 33 PC4, 34 PC5, 35 PB0, 36 PB1, 37 PB2, 38 PE7, 39 PE8, 40 PE9, 41 PE10, 42 PE11, 43 PE12, 44 PE13, 45 PE14, 46 PE15, 47 PB10, 48 PB11, 49 VSS, 50 VDD, 51 PB12, 52 PB13, 53 PB14, 54 PB15, 55 PD8, 56 PD9, 57 PD10, 58 PD11, 59 PD12, 60 PD13, 61 PD14, 62 PD15, 63 PC6, 64 PC7, 65 PC8, 66 PC9, 67 PA8, 68 PA9, 69 PA10, 70 PA11, 71 PA12, 72 PA13, 73 VDD, 74 VSS, 75 VDD, 76 PA14, 77 PA15, 78 PC10, 79 PC11, 80 PC12, 81 PD0, 82 PD1, 83 PD2, 84 PD3, 85 PD4, 86 PD5, 87 PD6, 88 PD7, 89 PB3, 90 PB4, 91 PB5, 92 PB6, 93 PB7, 94 PH3, 95 PB8, 96 PB9, 97 PE0, 98 PE1, 99 VSS, 100 VDD

## STM32L451VCIx
designator U?  value STM32L451VCIx  Reference: U
STMicroelectronics Arm Cortex-M4 MCU, 256KB flash, 160KB RAM, 80 MHz, 1.71-3.6V, 83 GPIO, UFBGA100; ki_keywords: Arm Cortex-M4 STM32L4 STM32L4x1; ki_fp_filters: UFBGA*7x7mm*Layout12x12*P0.5mm*; Footprint: Package_BGA:UFBGA-100_7x7mm_Layout12x12_P0.5mm; Datasheet: https://www.st.com/resource/en/datasheet/stm32l451vc.pdf; Description_: STMicroelectronics Arm Cortex-M4 MCU, 256KB flash, 160KB RAM, 80 MHz, 1.71-3.6V, 83 GPIO, UFBGA100
pins: A1 PE3, A2 PE1, A3 PB8, A4 PH3, A5 PD7, A6 PD5, A7 PB4, A8 PB3, A9 PA15, A10 PA14, A11 PA13, A12 PA12, B1 PE4, B2 PE2, B3 PB9, B4 PB7, B5 PB6, B6 PD6, B7 PD4, B8 PD3, B9 PD1, B10 PC12, B11 PC10, B12 PA11, C1 PC13, C2 PE5, C3 PE0, C4 VDD, C5 PB5, C8 PD2, C9 PD0, C10 PC11, C11 VDD, C12 PA10, D1 PC14, D2 PE6, D3 VSS, D10 PA9, D11 PA8, D12 PC9, E1 PC15, E2 VBAT, E3 VSS, E10 PC8, E11 PC7, E12 PC6, F1 PH0, F2 VSS, F11 VSS, F12 VSS, G1 PH1, G2 VDD, G11 VDD, G12 VDD, H1 PC0, H2 NRST, H3 VDD, H10 PD15, H11 PD14, H12 PD13, J1 VSSA, J2 PC1, J3 PC2, J10 PD12, J11 PD11, J12 PD10, K1 VREF-, K2 PC3, K3 PA2, K4 PA5, K5 PC4, K8 PD9, K9 PD8, K10 PB15, K11 PB14, K12 PB13, L1 VREF+, L2 PA0, L3 PA3, L4 PA6, L5 PC5, L6 PB2, L7 PE8, L8 PE10, L9 PE12, L10 PB10, L11 PB11, L12 PB12, M1 VDDA, M2 PA1, M3 PA4, M4 PA7, M5 PB0, M6 PB1, M7 PE7, M8 PE9, M9 PE11, M10 PE13, M11 PE14, M12 PE15

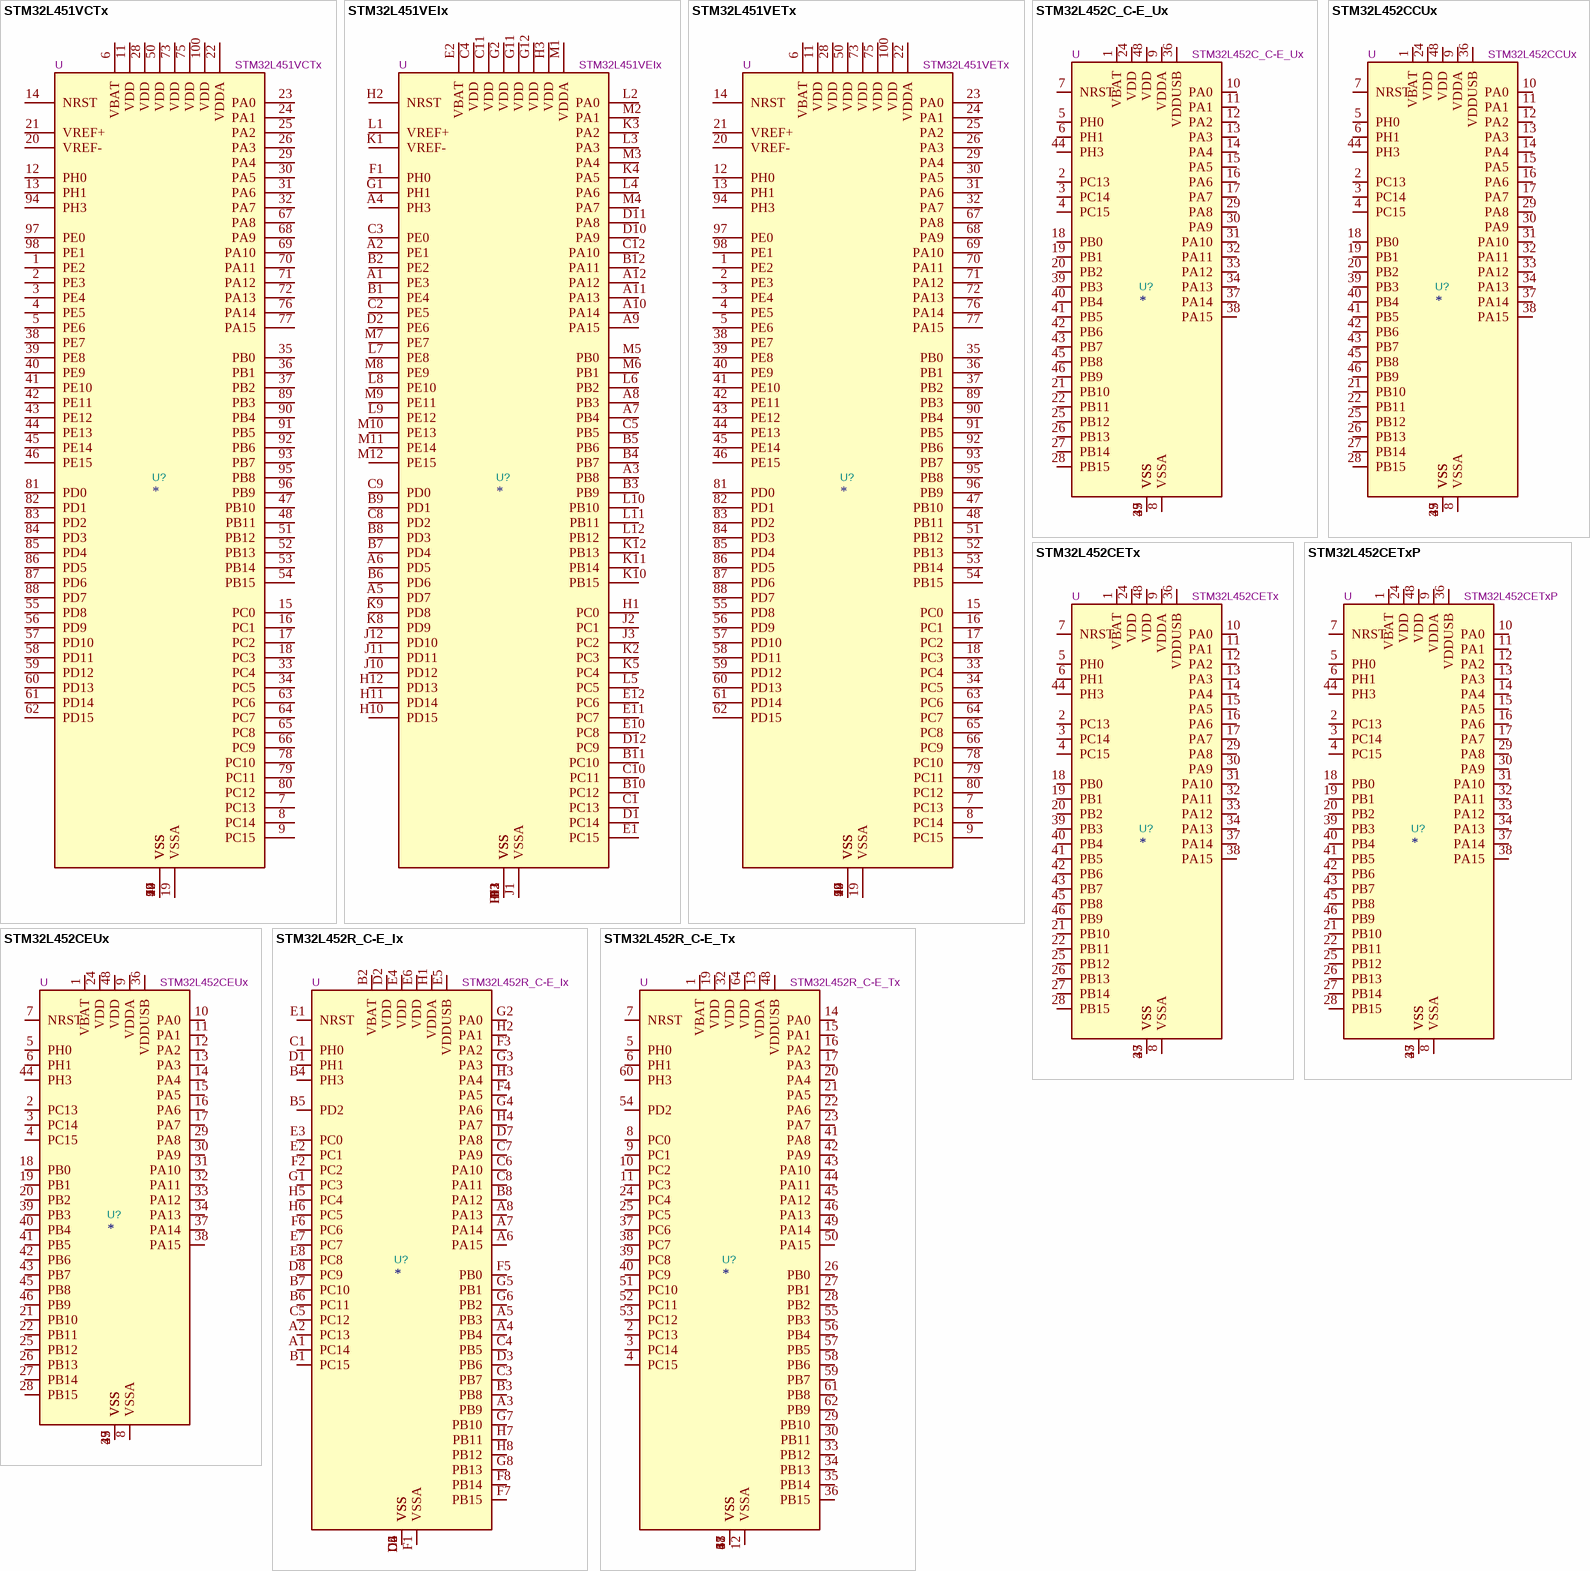
[diagram p42: symbols STM32L451VCTx to STM32L452R_C-E_Tx]

## STM32L451VCTx
designator U?  value STM32L451VCTx  Reference: U
STMicroelectronics Arm Cortex-M4 MCU, 256KB flash, 160KB RAM, 80 MHz, 1.71-3.6V, 83 GPIO, LQFP100; ki_keywords: Arm Cortex-M4 STM32L4 STM32L4x1; ki_fp_filters: LQFP*14x14mm*P0.5mm*; Footprint: Package_QFP:LQFP-100_14x14mm_P0.5mm; Datasheet: https://www.st.com/resource/en/datasheet/stm32l451vc.pdf; Description_: STMicroelectronics Arm Cortex-M4 MCU, 256KB flash, 160KB RAM, 80 MHz, 1.71-3.6V, 83 GPIO, LQFP100
pins: 1 PE2, 2 PE3, 3 PE4, 4 PE5, 5 PE6, 6 VBAT, 7 PC13, 8 PC14, 9 PC15, 10 VSS, 11 VDD, 12 PH0, 13 PH1, 14 NRST, 15 PC0, 16 PC1, 17 PC2, 18 PC3, 19 VSSA, 20 VREF-, 21 VREF+, 22 VDDA, 23 PA0, 24 PA1, 25 PA2, 26 PA3, 27 VSS, 28 VDD, 29 PA4, 30 PA5, 31 PA6, 32 PA7, 33 PC4, 34 PC5, 35 PB0, 36 PB1, 37 PB2, 38 PE7, 39 PE8, 40 PE9, 41 PE10, 42 PE11, 43 PE12, 44 PE13, 45 PE14, 46 PE15, 47 PB10, 48 PB11, 49 VSS, 50 VDD, 51 PB12, 52 PB13, 53 PB14, 54 PB15, 55 PD8, 56 PD9, 57 PD10, 58 PD11, 59 PD12, 60 PD13, 61 PD14, 62 PD15, 63 PC6, 64 PC7, 65 PC8, 66 PC9, 67 PA8, 68 PA9, 69 PA10, 70 PA11, 71 PA12, 72 PA13, 73 VDD, 74 VSS, 75 VDD, 76 PA14, 77 PA15, 78 PC10, 79 PC11, 80 PC12, 81 PD0, 82 PD1, 83 PD2, 84 PD3, 85 PD4, 86 PD5, 87 PD6, 88 PD7, 89 PB3, 90 PB4, 91 PB5, 92 PB6, 93 PB7, 94 PH3, 95 PB8, 96 PB9, 97 PE0, 98 PE1, 99 VSS, 100 VDD

## STM32L451VEIx
designator U?  value STM32L451VEIx  Reference: U
STMicroelectronics Arm Cortex-M4 MCU, 512KB flash, 160KB RAM, 80 MHz, 1.71-3.6V, 83 GPIO, UFBGA100; ki_keywords: Arm Cortex-M4 STM32L4 STM32L4x1; ki_fp_filters: UFBGA*7x7mm*Layout12x12*P0.5mm*; Footprint: Package_BGA:UFBGA-100_7x7mm_Layout12x12_P0.5mm; Datasheet: https://www.st.com/resource/en/datasheet/stm32l451ve.pdf; Description_: STMicroelectronics Arm Cortex-M4 MCU, 512KB flash, 160KB RAM, 80 MHz, 1.71-3.6V, 83 GPIO, UFBGA100
pins: A1 PE3, A2 PE1, A3 PB8, A4 PH3, A5 PD7, A6 PD5, A7 PB4, A8 PB3, A9 PA15, A10 PA14, A11 PA13, A12 PA12, B1 PE4, B2 PE2, B3 PB9, B4 PB7, B5 PB6, B6 PD6, B7 PD4, B8 PD3, B9 PD1, B10 PC12, B11 PC10, B12 PA11, C1 PC13, C2 PE5, C3 PE0, C4 VDD, C5 PB5, C8 PD2, C9 PD0, C10 PC11, C11 VDD, C12 PA10, D1 PC14, D2 PE6, D3 VSS, D10 PA9, D11 PA8, D12 PC9, E1 PC15, E2 VBAT, E3 VSS, E10 PC8, E11 PC7, E12 PC6, F1 PH0, F2 VSS, F11 VSS, F12 VSS, G1 PH1, G2 VDD, G11 VDD, G12 VDD, H1 PC0, H2 NRST, H3 VDD, H10 PD15, H11 PD14, H12 PD13, J1 VSSA, J2 PC1, J3 PC2, J10 PD12, J11 PD11, J12 PD10, K1 VREF-, K2 PC3, K3 PA2, K4 PA5, K5 PC4, K8 PD9, K9 PD8, K10 PB15, K11 PB14, K12 PB13, L1 VREF+, L2 PA0, L3 PA3, L4 PA6, L5 PC5, L6 PB2, L7 PE8, L8 PE10, L9 PE12, L10 PB10, L11 PB11, L12 PB12, M1 VDDA, M2 PA1, M3 PA4, M4 PA7, M5 PB0, M6 PB1, M7 PE7, M8 PE9, M9 PE11, M10 PE13, M11 PE14, M12 PE15

## STM32L451VETx
designator U?  value STM32L451VETx  Reference: U
STMicroelectronics Arm Cortex-M4 MCU, 512KB flash, 160KB RAM, 80 MHz, 1.71-3.6V, 83 GPIO, LQFP100; ki_keywords: Arm Cortex-M4 STM32L4 STM32L4x1; ki_fp_filters: LQFP*14x14mm*P0.5mm*; Footprint: Package_QFP:LQFP-100_14x14mm_P0.5mm; Datasheet: https://www.st.com/resource/en/datasheet/stm32l451ve.pdf; Description_: STMicroelectronics Arm Cortex-M4 MCU, 512KB flash, 160KB RAM, 80 MHz, 1.71-3.6V, 83 GPIO, LQFP100
pins: 1 PE2, 2 PE3, 3 PE4, 4 PE5, 5 PE6, 6 VBAT, 7 PC13, 8 PC14, 9 PC15, 10 VSS, 11 VDD, 12 PH0, 13 PH1, 14 NRST, 15 PC0, 16 PC1, 17 PC2, 18 PC3, 19 VSSA, 20 VREF-, 21 VREF+, 22 VDDA, 23 PA0, 24 PA1, 25 PA2, 26 PA3, 27 VSS, 28 VDD, 29 PA4, 30 PA5, 31 PA6, 32 PA7, 33 PC4, 34 PC5, 35 PB0, 36 PB1, 37 PB2, 38 PE7, 39 PE8, 40 PE9, 41 PE10, 42 PE11, 43 PE12, 44 PE13, 45 PE14, 46 PE15, 47 PB10, 48 PB11, 49 VSS, 50 VDD, 51 PB12, 52 PB13, 53 PB14, 54 PB15, 55 PD8, 56 PD9, 57 PD10, 58 PD11, 59 PD12, 60 PD13, 61 PD14, 62 PD15, 63 PC6, 64 PC7, 65 PC8, 66 PC9, 67 PA8, 68 PA9, 69 PA10, 70 PA11, 71 PA12, 72 PA13, 73 VDD, 74 VSS, 75 VDD, 76 PA14, 77 PA15, 78 PC10, 79 PC11, 80 PC12, 81 PD0, 82 PD1, 83 PD2, 84 PD3, 85 PD4, 86 PD5, 87 PD6, 88 PD7, 89 PB3, 90 PB4, 91 PB5, 92 PB6, 93 PB7, 94 PH3, 95 PB8, 96 PB9, 97 PE0, 98 PE1, 99 VSS, 100 VDD

## STM32L452C_C-E_Ux
designator U?  value STM32L452C_C-E_Ux  Reference: U
STMicroelectronics Arm Cortex-M4 MCU, 256-512KB flash, 160KB RAM, 80 MHz, 1.71-3.6V, 38 GPIO, UFQFPN48; ki_keywords: Arm Cortex-M4 STM32L4 STM32L4x2; ki_fp_filters: QFN*1EP*7x7mm*P0.5mm*; Footprint: Package_DFN_QFN:QFN-48-1EP_7x7mm_P0.5mm_EP5.6x5.6mm; Datasheet: https://www.st.com/resource/en/datasheet/stm32l452cc.pdf; Description_: STMicroelectronics Arm Cortex-M4 MCU, 256-512KB flash, 160KB RAM, 80 MHz, 1.71-3.6V, 38 GPIO, UFQFPN48
pins: 1 VBAT, 2 PC13, 3 PC14, 4 PC15, 5 PH0, 6 PH1, 7 NRST, 8 VSSA, 9 VDDA, 10 PA0, 11 PA1, 12 PA2, 13 PA3, 14 PA4, 15 PA5, 16 PA6, 17 PA7, 18 PB0, 19 PB1, 20 PB2, 21 PB10, 22 PB11, 23 VSS, 24 VDD, 25 PB12, 26 PB13, 27 PB14, 28 PB15, 29 PA8, 30 PA9, 31 PA10, 32 PA11, 33 PA12, 34 PA13, 35 VSS, 36 VDDUSB, 37 PA14, 38 PA15, 39 PB3, 40 PB4, 41 PB5, 42 PB6, 43 PB7, 44 PH3, 45 PB8, 46 PB9, 47 VSS, 48 VDD, 49 VSS

## STM32L452CCUx
designator U?  value STM32L452CCUx  Reference: U
STMicroelectronics Arm Cortex-M4 MCU, 256KB flash, 160KB RAM, 80 MHz, 1.71-3.6V, 38 GPIO, UFQFPN48; ki_keywords: Arm Cortex-M4 STM32L4 STM32L4x2; ki_fp_filters: QFN*1EP*7x7mm*P0.5mm*; Footprint: Package_DFN_QFN:QFN-48-1EP_7x7mm_P0.5mm_EP5.6x5.6mm; Datasheet: https://www.st.com/resource/en/datasheet/stm32l452cc.pdf; Description_: STMicroelectronics Arm Cortex-M4 MCU, 256KB flash, 160KB RAM, 80 MHz, 1.71-3.6V, 38 GPIO, UFQFPN48
pins: 1 VBAT, 2 PC13, 3 PC14, 4 PC15, 5 PH0, 6 PH1, 7 NRST, 8 VSSA, 9 VDDA, 10 PA0, 11 PA1, 12 PA2, 13 PA3, 14 PA4, 15 PA5, 16 PA6, 17 PA7, 18 PB0, 19 PB1, 20 PB2, 21 PB10, 22 PB11, 23 VSS, 24 VDD, 25 PB12, 26 PB13, 27 PB14, 28 PB15, 29 PA8, 30 PA9, 31 PA10, 32 PA11, 33 PA12, 34 PA13, 35 VSS, 36 VDDUSB, 37 PA14, 38 PA15, 39 PB3, 40 PB4, 41 PB5, 42 PB6, 43 PB7, 44 PH3, 45 PB8, 46 PB9, 47 VSS, 48 VDD, 49 VSS

## STM32L452CETx
designator U?  value STM32L452CETx  Reference: U
STMicroelectronics Arm Cortex-M4 MCU, 512KB flash, 160KB RAM, 80 MHz, 1.71-3.6V, 38 GPIO, LQFP48; ki_keywords: Arm Cortex-M4 STM32L4 STM32L4x2; ki_fp_filters: LQFP*7x7mm*P0.5mm*; Footprint: Package_QFP:LQFP-48_7x7mm_P0.5mm; Datasheet: https://www.st.com/resource/en/datasheet/stm32l452ce.pdf; Description_: STMicroelectronics Arm Cortex-M4 MCU, 512KB flash, 160KB RAM, 80 MHz, 1.71-3.6V, 38 GPIO, LQFP48
pins: 1 VBAT, 2 PC13, 3 PC14, 4 PC15, 5 PH0, 6 PH1, 7 NRST, 8 VSSA, 9 VDDA, 10 PA0, 11 PA1, 12 PA2, 13 PA3, 14 PA4, 15 PA5, 16 PA6, 17 PA7, 18 PB0, 19 PB1, 20 PB2, 21 PB10, 22 PB11, 23 VSS, 24 VDD, 25 PB12, 26 PB13, 27 PB14, 28 PB15, 29 PA8, 30 PA9, 31 PA10, 32 PA11, 33 PA12, 34 PA13, 35 VSS, 36 VDDUSB, 37 PA14, 38 PA15, 39 PB3, 40 PB4, 41 PB5, 42 PB6, 43 PB7, 44 PH3, 45 PB8, 46 PB9, 47 VSS, 48 VDD

## STM32L452CETxP
designator U?  value STM32L452CETxP  Reference: U
STMicroelectronics Arm Cortex-M4 MCU, 512KB flash, 160KB RAM, 80 MHz, 1.71-3.6V, 38 GPIO, LQFP48; ki_keywords: Arm Cortex-M4 STM32L4 STM32L4x2; ki_fp_filters: LQFP*7x7mm*P0.5mm*; Footprint: Package_QFP:LQFP-48_7x7mm_P0.5mm; Datasheet: https://www.st.com/resource/en/datasheet/stm32l452ce.pdf; Description_: STMicroelectronics Arm Cortex-M4 MCU, 512KB flash, 160KB RAM, 80 MHz, 1.71-3.6V, 38 GPIO, LQFP48
pins: 1 VBAT, 2 PC13, 3 PC14, 4 PC15, 5 PH0, 6 PH1, 7 NRST, 8 VSSA, 9 VDDA, 10 PA0, 11 PA1, 12 PA2, 13 PA3, 14 PA4, 15 PA5, 16 PA6, 17 PA7, 18 PB0, 19 PB1, 20 PB2, 21 PB10, 22 PB11, 23 VSS, 24 VDD, 25 PB12, 26 PB13, 27 PB14, 28 PB15, 29 PA8, 30 PA9, 31 PA10, 32 PA11, 33 PA12, 34 PA13, 35 VSS, 36 VDDUSB, 37 PA14, 38 PA15, 39 PB3, 40 PB4, 41 PB5, 42 PB6, 43 PB7, 44 PH3, 45 PB8, 46 PB9, 47 VSS, 48 VDD

## STM32L452CEUx
designator U?  value STM32L452CEUx  Reference: U
STMicroelectronics Arm Cortex-M4 MCU, 512KB flash, 160KB RAM, 80 MHz, 1.71-3.6V, 38 GPIO, UFQFPN48; ki_keywords: Arm Cortex-M4 STM32L4 STM32L4x2; ki_fp_filters: QFN*1EP*7x7mm*P0.5mm*; Footprint: Package_DFN_QFN:QFN-48-1EP_7x7mm_P0.5mm_EP5.6x5.6mm; Datasheet: https://www.st.com/resource/en/datasheet/stm32l452ce.pdf; Description_: STMicroelectronics Arm Cortex-M4 MCU, 512KB flash, 160KB RAM, 80 MHz, 1.71-3.6V, 38 GPIO, UFQFPN48
pins: 1 VBAT, 2 PC13, 3 PC14, 4 PC15, 5 PH0, 6 PH1, 7 NRST, 8 VSSA, 9 VDDA, 10 PA0, 11 PA1, 12 PA2, 13 PA3, 14 PA4, 15 PA5, 16 PA6, 17 PA7, 18 PB0, 19 PB1, 20 PB2, 21 PB10, 22 PB11, 23 VSS, 24 VDD, 25 PB12, 26 PB13, 27 PB14, 28 PB15, 29 PA8, 30 PA9, 31 PA10, 32 PA11, 33 PA12, 34 PA13, 35 VSS, 36 VDDUSB, 37 PA14, 38 PA15, 39 PB3, 40 PB4, 41 PB5, 42 PB6, 43 PB7, 44 PH3, 45 PB8, 46 PB9, 47 VSS, 48 VDD, 49 VSS

## STM32L452R_C-E_Ix
designator U?  value STM32L452R_C-E_Ix  Reference: U
STMicroelectronics Arm Cortex-M4 MCU, 256-512KB flash, 160KB RAM, 80 MHz, 1.71-3.6V, 52 GPIO, UFBGA64; ki_keywords: Arm Cortex-M4 STM32L4 STM32L4x2; ki_fp_filters: UFBGA*5x5mm*Layout8x8*P0.5mm*; Footprint: Package_BGA:UFBGA-64_5x5mm_Layout8x8_P0.5mm; Datasheet: https://www.st.com/resource/en/datasheet/stm32l452rc.pdf; Description_: STMicroelectronics Arm Cortex-M4 MCU, 256-512KB flash, 160KB RAM, 80 MHz, 1.71-3.6V, 52 GPIO, UFBGA64
pins: A1 PC14, A2 PC13, A3 PB9, A4 PB4, A5 PB3, A6 PA15, A7 PA14, A8 PA13, B1 PC15, B2 VBAT, B3 PB8, B4 PH3, B5 PD2, B6 PC11, B7 PC10, B8 PA12, C1 PH0, C2 VSS, C3 PB7, C4 PB5, C5 PC12, C6 PA10, C7 PA9, C8 PA11, D1 PH1, D2 VDD, D3 PB6, D4 VSS, D5 VSS, D6 VSS, D7 PA8, D8 PC9, E1 NRST, E2 PC1, E3 PC0, E4 VDD, E5 VDDUSB, E6 VDD, E7 PC7, E8 PC8, F1 VSSA, F2 PC2, F3 PA2, F4 PA5, F5 PB0, F6 PC6, F7 PB15, F8 PB14, G1 PC3, G2 PA0, G3 PA3, G4 PA6, G5 PB1, G6 PB2, G7 PB10, G8 PB13, H1 VDDA, H2 PA1, H3 PA4, H4 PA7, H5 PC4, H6 PC5, H7 PB11, H8 PB12

## STM32L452R_C-E_Tx
designator U?  value STM32L452R_C-E_Tx  Reference: U
STMicroelectronics Arm Cortex-M4 MCU, 256-512KB flash, 160KB RAM, 80 MHz, 1.71-3.6V, 52 GPIO, LQFP64; ki_keywords: Arm Cortex-M4 STM32L4 STM32L4x2; ki_fp_filters: LQFP*10x10mm*P0.5mm*; Footprint: Package_QFP:LQFP-64_10x10mm_P0.5mm; Datasheet: https://www.st.com/resource/en/datasheet/stm32l452rc.pdf; Description_: STMicroelectronics Arm Cortex-M4 MCU, 256-512KB flash, 160KB RAM, 80 MHz, 1.71-3.6V, 52 GPIO, LQFP64
pins: 1 VBAT, 2 PC13, 3 PC14, 4 PC15, 5 PH0, 6 PH1, 7 NRST, 8 PC0, 9 PC1, 10 PC2, 11 PC3, 12 VSSA, 13 VDDA, 14 PA0, 15 PA1, 16 PA2, 17 PA3, 18 VSS, 19 VDD, 20 PA4, 21 PA5, 22 PA6, 23 PA7, 24 PC4, 25 PC5, 26 PB0, 27 PB1, 28 PB2, 29 PB10, 30 PB11, 31 VSS, 32 VDD, 33 PB12, 34 PB13, 35 PB14, 36 PB15, 37 PC6, 38 PC7, 39 PC8, 40 PC9, 41 PA8, 42 PA9, 43 PA10, 44 PA11, 45 PA12, 46 PA13, 47 VSS, 48 VDDUSB, 49 PA14, 50 PA15, 51 PC10, 52 PC11, 53 PC12, 54 PD2, 55 PB3, 56 PB4, 57 PB5, 58 PB6, 59 PB7, 60 PH3, 61 PB8, 62 PB9, 63 VSS, 64 VDD

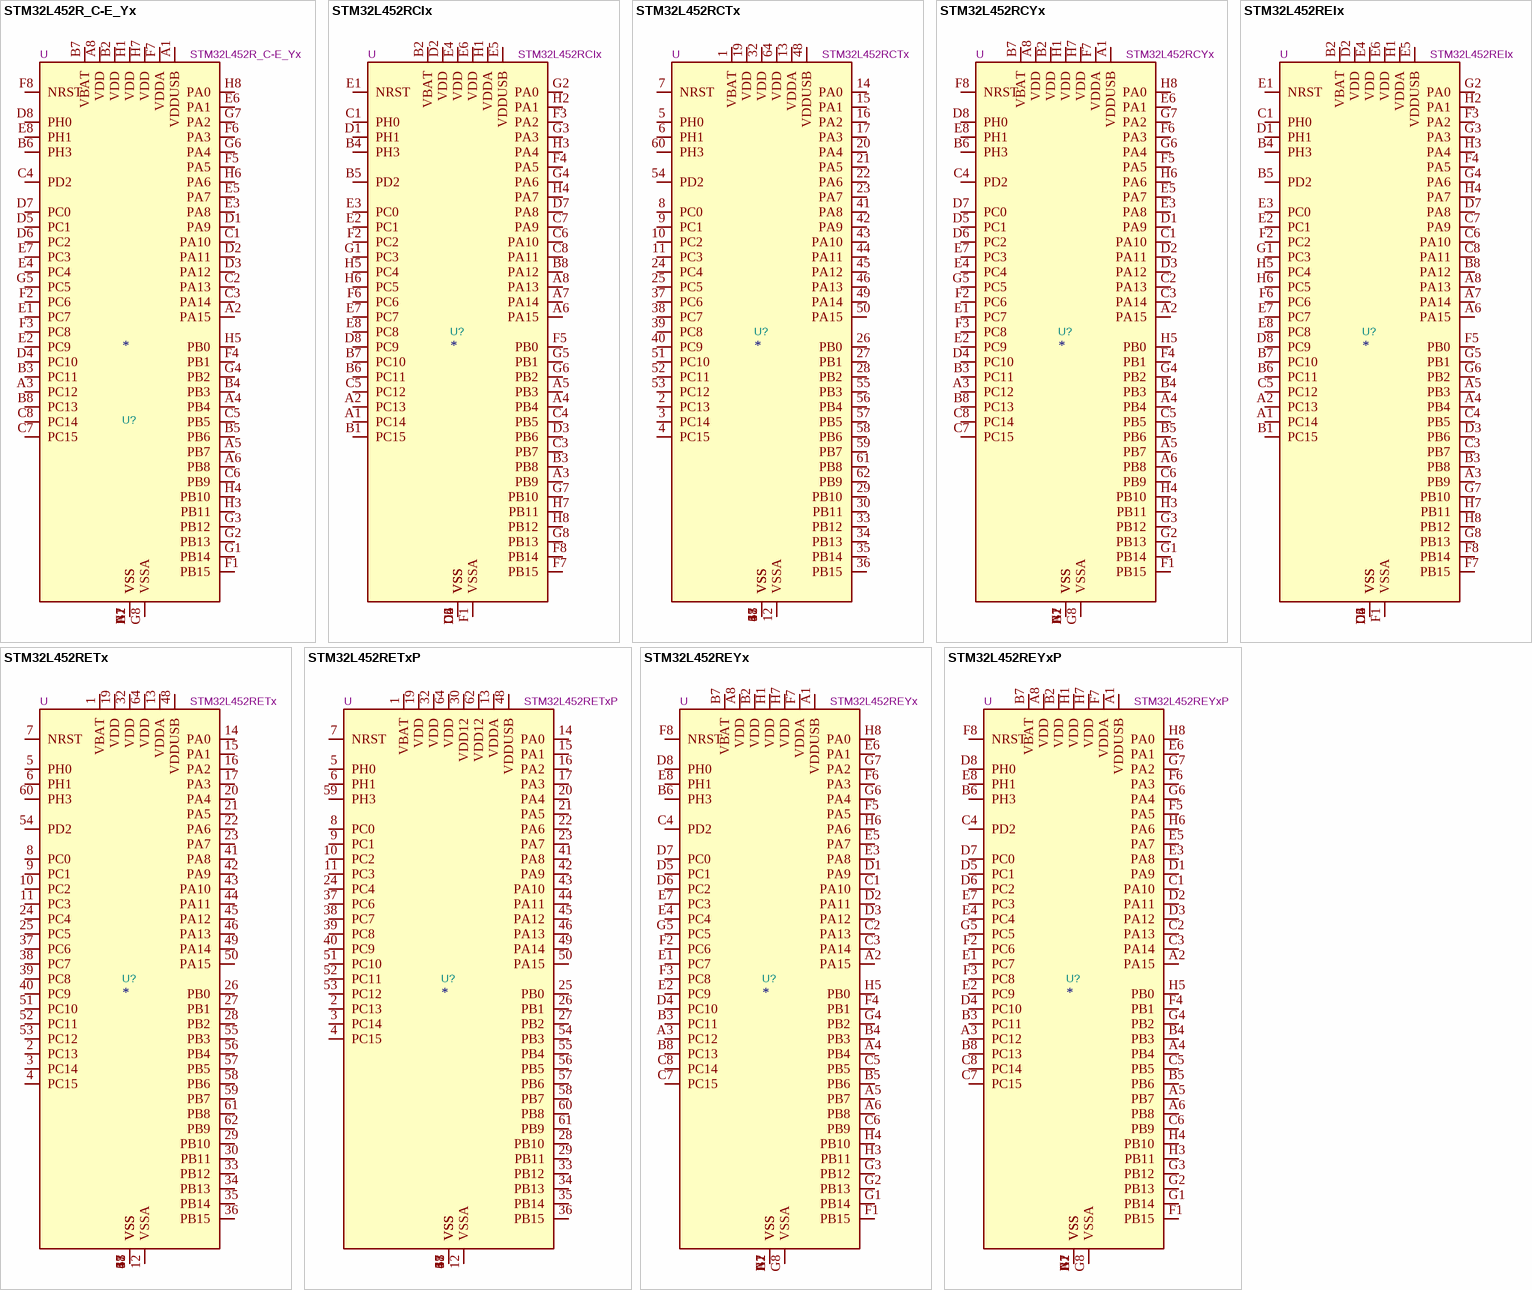
[diagram p43: symbols STM32L452R_C-E_Yx to STM32L452REYxP]

## STM32L452R_C-E_Yx
designator U?  value STM32L452R_C-E_Yx  Reference: U
STMicroelectronics Arm Cortex-M4 MCU, 256-512KB flash, 160KB RAM, 80 MHz, 1.71-3.6V, 52 GPIO, WLCSP64; ki_keywords: Arm Cortex-M4 STM32L4 STM32L4x2; ki_fp_filters: ST*WLCSP*Die462*; Footprint: Package_CSP:ST_WLCSP-64_Die462; Datasheet: https://www.st.com/resource/en/datasheet/stm32l452rc.pdf; Description_: STMicroelectronics Arm Cortex-M4 MCU, 256-512KB flash, 160KB RAM, 80 MHz, 1.71-3.6V, 52 GPIO, WLCSP64
pins: A1 VDDUSB, A2 PA15, A3 PC12, A4 PB4, A5 PB7, A6 PB8, A7 VSS, A8 VDD, B1 VSS, B2 VDD, B3 PC11, B4 PB3, B5 PB6, B6 PH3, B7 VBAT, B8 PC13, C1 PA10, C2 PA13, C3 PA14, C4 PD2, C5 PB5, C6 PB9, C7 PC15, C8 PC14, D1 PA9, D2 PA11, D3 PA12, D4 PC10, D5 PC1, D6 PC2, D7 PC0, D8 PH0, E1 PC7, E2 PC9, E3 PA8, E4 PC4, E5 PA7, E6 PA1, E7 PC3, E8 PH1, F1 PB15, F2 PC6, F3 PC8, F4 PB1, F5 PA5, F6 PA3, F7 VDDA, F8 NRST, G1 PB14, G2 PB13, G3 PB12, G4 PB2, G5 PC5, G6 PA4, G7 PA2, G8 VSSA, H1 VDD, H2 VSS, H3 PB11, H4 PB10, H5 PB0, H6 PA6, H7 VDD, H8 PA0

## STM32L452RCIx
designator U?  value STM32L452RCIx  Reference: U
STMicroelectronics Arm Cortex-M4 MCU, 256KB flash, 160KB RAM, 80 MHz, 1.71-3.6V, 52 GPIO, UFBGA64; ki_keywords: Arm Cortex-M4 STM32L4 STM32L4x2; ki_fp_filters: UFBGA*5x5mm*Layout8x8*P0.5mm*; Footprint: Package_BGA:UFBGA-64_5x5mm_Layout8x8_P0.5mm; Datasheet: https://www.st.com/resource/en/datasheet/stm32l452rc.pdf; Description_: STMicroelectronics Arm Cortex-M4 MCU, 256KB flash, 160KB RAM, 80 MHz, 1.71-3.6V, 52 GPIO, UFBGA64
pins: A1 PC14, A2 PC13, A3 PB9, A4 PB4, A5 PB3, A6 PA15, A7 PA14, A8 PA13, B1 PC15, B2 VBAT, B3 PB8, B4 PH3, B5 PD2, B6 PC11, B7 PC10, B8 PA12, C1 PH0, C2 VSS, C3 PB7, C4 PB5, C5 PC12, C6 PA10, C7 PA9, C8 PA11, D1 PH1, D2 VDD, D3 PB6, D4 VSS, D5 VSS, D6 VSS, D7 PA8, D8 PC9, E1 NRST, E2 PC1, E3 PC0, E4 VDD, E5 VDDUSB, E6 VDD, E7 PC7, E8 PC8, F1 VSSA, F2 PC2, F3 PA2, F4 PA5, F5 PB0, F6 PC6, F7 PB15, F8 PB14, G1 PC3, G2 PA0, G3 PA3, G4 PA6, G5 PB1, G6 PB2, G7 PB10, G8 PB13, H1 VDDA, H2 PA1, H3 PA4, H4 PA7, H5 PC4, H6 PC5, H7 PB11, H8 PB12

## STM32L452RCTx
designator U?  value STM32L452RCTx  Reference: U
STMicroelectronics Arm Cortex-M4 MCU, 256KB flash, 160KB RAM, 80 MHz, 1.71-3.6V, 52 GPIO, LQFP64; ki_keywords: Arm Cortex-M4 STM32L4 STM32L4x2; ki_fp_filters: LQFP*10x10mm*P0.5mm*; Footprint: Package_QFP:LQFP-64_10x10mm_P0.5mm; Datasheet: https://www.st.com/resource/en/datasheet/stm32l452rc.pdf; Description_: STMicroelectronics Arm Cortex-M4 MCU, 256KB flash, 160KB RAM, 80 MHz, 1.71-3.6V, 52 GPIO, LQFP64
pins: 1 VBAT, 2 PC13, 3 PC14, 4 PC15, 5 PH0, 6 PH1, 7 NRST, 8 PC0, 9 PC1, 10 PC2, 11 PC3, 12 VSSA, 13 VDDA, 14 PA0, 15 PA1, 16 PA2, 17 PA3, 18 VSS, 19 VDD, 20 PA4, 21 PA5, 22 PA6, 23 PA7, 24 PC4, 25 PC5, 26 PB0, 27 PB1, 28 PB2, 29 PB10, 30 PB11, 31 VSS, 32 VDD, 33 PB12, 34 PB13, 35 PB14, 36 PB15, 37 PC6, 38 PC7, 39 PC8, 40 PC9, 41 PA8, 42 PA9, 43 PA10, 44 PA11, 45 PA12, 46 PA13, 47 VSS, 48 VDDUSB, 49 PA14, 50 PA15, 51 PC10, 52 PC11, 53 PC12, 54 PD2, 55 PB3, 56 PB4, 57 PB5, 58 PB6, 59 PB7, 60 PH3, 61 PB8, 62 PB9, 63 VSS, 64 VDD

## STM32L452RCYx
designator U?  value STM32L452RCYx  Reference: U
STMicroelectronics Arm Cortex-M4 MCU, 256KB flash, 160KB RAM, 80 MHz, 1.71-3.6V, 52 GPIO, WLCSP64; ki_keywords: Arm Cortex-M4 STM32L4 STM32L4x2; ki_fp_filters: ST*WLCSP*Die462*; Footprint: Package_CSP:ST_WLCSP-64_Die462; Datasheet: https://www.st.com/resource/en/datasheet/stm32l452rc.pdf; Description_: STMicroelectronics Arm Cortex-M4 MCU, 256KB flash, 160KB RAM, 80 MHz, 1.71-3.6V, 52 GPIO, WLCSP64
pins: A1 VDDUSB, A2 PA15, A3 PC12, A4 PB4, A5 PB7, A6 PB8, A7 VSS, A8 VDD, B1 VSS, B2 VDD, B3 PC11, B4 PB3, B5 PB6, B6 PH3, B7 VBAT, B8 PC13, C1 PA10, C2 PA13, C3 PA14, C4 PD2, C5 PB5, C6 PB9, C7 PC15, C8 PC14, D1 PA9, D2 PA11, D3 PA12, D4 PC10, D5 PC1, D6 PC2, D7 PC0, D8 PH0, E1 PC7, E2 PC9, E3 PA8, E4 PC4, E5 PA7, E6 PA1, E7 PC3, E8 PH1, F1 PB15, F2 PC6, F3 PC8, F4 PB1, F5 PA5, F6 PA3, F7 VDDA, F8 NRST, G1 PB14, G2 PB13, G3 PB12, G4 PB2, G5 PC5, G6 PA4, G7 PA2, G8 VSSA, H1 VDD, H2 VSS, H3 PB11, H4 PB10, H5 PB0, H6 PA6, H7 VDD, H8 PA0

## STM32L452REIx
designator U?  value STM32L452REIx  Reference: U
STMicroelectronics Arm Cortex-M4 MCU, 512KB flash, 160KB RAM, 80 MHz, 1.71-3.6V, 52 GPIO, UFBGA64; ki_keywords: Arm Cortex-M4 STM32L4 STM32L4x2; ki_fp_filters: UFBGA*5x5mm*Layout8x8*P0.5mm*; Footprint: Package_BGA:UFBGA-64_5x5mm_Layout8x8_P0.5mm; Datasheet: https://www.st.com/resource/en/datasheet/stm32l452re.pdf; Description_: STMicroelectronics Arm Cortex-M4 MCU, 512KB flash, 160KB RAM, 80 MHz, 1.71-3.6V, 52 GPIO, UFBGA64
pins: A1 PC14, A2 PC13, A3 PB9, A4 PB4, A5 PB3, A6 PA15, A7 PA14, A8 PA13, B1 PC15, B2 VBAT, B3 PB8, B4 PH3, B5 PD2, B6 PC11, B7 PC10, B8 PA12, C1 PH0, C2 VSS, C3 PB7, C4 PB5, C5 PC12, C6 PA10, C7 PA9, C8 PA11, D1 PH1, D2 VDD, D3 PB6, D4 VSS, D5 VSS, D6 VSS, D7 PA8, D8 PC9, E1 NRST, E2 PC1, E3 PC0, E4 VDD, E5 VDDUSB, E6 VDD, E7 PC7, E8 PC8, F1 VSSA, F2 PC2, F3 PA2, F4 PA5, F5 PB0, F6 PC6, F7 PB15, F8 PB14, G1 PC3, G2 PA0, G3 PA3, G4 PA6, G5 PB1, G6 PB2, G7 PB10, G8 PB13, H1 VDDA, H2 PA1, H3 PA4, H4 PA7, H5 PC4, H6 PC5, H7 PB11, H8 PB12

## STM32L452RETx
designator U?  value STM32L452RETx  Reference: U
STMicroelectronics Arm Cortex-M4 MCU, 512KB flash, 160KB RAM, 80 MHz, 1.71-3.6V, 52 GPIO, LQFP64; ki_keywords: Arm Cortex-M4 STM32L4 STM32L4x2; ki_fp_filters: LQFP*10x10mm*P0.5mm*; Footprint: Package_QFP:LQFP-64_10x10mm_P0.5mm; Datasheet: https://www.st.com/resource/en/datasheet/stm32l452re.pdf; Description_: STMicroelectronics Arm Cortex-M4 MCU, 512KB flash, 160KB RAM, 80 MHz, 1.71-3.6V, 52 GPIO, LQFP64
footprint LQFP-64_10x10mm_P0.5mm
pins: 1 VBAT, 2 PC13, 3 PC14, 4 PC15, 5 PH0, 6 PH1, 7 NRST, 8 PC0, 9 PC1, 10 PC2, 11 PC3, 12 VSSA, 13 VDDA, 14 PA0, 15 PA1, 16 PA2, 17 PA3, 18 VSS, 19 VDD, 20 PA4, 21 PA5, 22 PA6, 23 PA7, 24 PC4, 25 PC5, 26 PB0, 27 PB1, 28 PB2, 29 PB10, 30 PB11, 31 VSS, 32 VDD, 33 PB12, 34 PB13, 35 PB14, 36 PB15, 37 PC6, 38 PC7, 39 PC8, 40 PC9, 41 PA8, 42 PA9, 43 PA10, 44 PA11, 45 PA12, 46 PA13, 47 VSS, 48 VDDUSB, 49 PA14, 50 PA15, 51 PC10, 52 PC11, 53 PC12, 54 PD2, 55 PB3, 56 PB4, 57 PB5, 58 PB6, 59 PB7, 60 PH3, 61 PB8, 62 PB9, 63 VSS, 64 VDD

## STM32L452RETxP
designator U?  value STM32L452RETxP  Reference: U
STMicroelectronics Arm Cortex-M4 MCU, 512KB flash, 160KB RAM, 80 MHz, 1.71-3.6V, 50 GPIO, LQFP64; ki_keywords: Arm Cortex-M4 STM32L4 STM32L4x2; ki_fp_filters: LQFP*10x10mm*P0.5mm*; Footprint: Package_QFP:LQFP-64_10x10mm_P0.5mm; Datasheet: https://www.st.com/resource/en/datasheet/stm32l452re.pdf; Description_: STMicroelectronics Arm Cortex-M4 MCU, 512KB flash, 160KB RAM, 80 MHz, 1.71-3.6V, 50 GPIO, LQFP64
pins: 1 VBAT, 2 PC13, 3 PC14, 4 PC15, 5 PH0, 6 PH1, 7 NRST, 8 PC0, 9 PC1, 10 PC2, 11 PC3, 12 VSSA, 13 VDDA, 14 PA0, 15 PA1, 16 PA2, 17 PA3, 18 VSS, 19 VDD, 20 PA4, 21 PA5, 22 PA6, 23 PA7, 24 PC4, 25 PB0, 26 PB1, 27 PB2, 28 PB10, 29 PB11, 30 VDD12, 31 VSS, 32 VDD, 33 PB12, 34 PB13, 35 PB14, 36 PB15, 37 PC6, 38 PC7, 39 PC8, 40 PC9, 41 PA8, 42 PA9, 43 PA10, 44 PA11, 45 PA12, 46 PA13, 47 VSS, 48 VDDUSB, 49 PA14, 50 PA15, 51 PC10, 52 PC11, 53 PC12, 54 PB3, 55 PB4, 56 PB5, 57 PB6, 58 PB7, 59 PH3, 60 PB8, 61 PB9, 62 VDD12, 63 VSS, 64 VDD

## STM32L452REYx
designator U?  value STM32L452REYx  Reference: U
STMicroelectronics Arm Cortex-M4 MCU, 512KB flash, 160KB RAM, 80 MHz, 1.71-3.6V, 52 GPIO, WLCSP64; ki_keywords: Arm Cortex-M4 STM32L4 STM32L4x2; ki_fp_filters: ST*WLCSP*Die462*; Footprint: Package_CSP:ST_WLCSP-64_Die462; Datasheet: https://www.st.com/resource/en/datasheet/stm32l452re.pdf; Description_: STMicroelectronics Arm Cortex-M4 MCU, 512KB flash, 160KB RAM, 80 MHz, 1.71-3.6V, 52 GPIO, WLCSP64
pins: A1 VDDUSB, A2 PA15, A3 PC12, A4 PB4, A5 PB7, A6 PB8, A7 VSS, A8 VDD, B1 VSS, B2 VDD, B3 PC11, B4 PB3, B5 PB6, B6 PH3, B7 VBAT, B8 PC13, C1 PA10, C2 PA13, C3 PA14, C4 PD2, C5 PB5, C6 PB9, C7 PC15, C8 PC14, D1 PA9, D2 PA11, D3 PA12, D4 PC10, D5 PC1, D6 PC2, D7 PC0, D8 PH0, E1 PC7, E2 PC9, E3 PA8, E4 PC4, E5 PA7, E6 PA1, E7 PC3, E8 PH1, F1 PB15, F2 PC6, F3 PC8, F4 PB1, F5 PA5, F6 PA3, F7 VDDA, F8 NRST, G1 PB14, G2 PB13, G3 PB12, G4 PB2, G5 PC5, G6 PA4, G7 PA2, G8 VSSA, H1 VDD, H2 VSS, H3 PB11, H4 PB10, H5 PB0, H6 PA6, H7 VDD, H8 PA0

## STM32L452REYxP
designator U?  value STM32L452REYxP  Reference: U
STMicroelectronics Arm Cortex-M4 MCU, 512KB flash, 160KB RAM, 80 MHz, 1.71-3.6V, 52 GPIO, WLCSP64; ki_keywords: Arm Cortex-M4 STM32L4 STM32L4x2; ki_fp_filters: ST*WLCSP*Die462*; Footprint: Package_CSP:ST_WLCSP-64_Die462; Datasheet: https://www.st.com/resource/en/datasheet/stm32l452re.pdf; Description_: STMicroelectronics Arm Cortex-M4 MCU, 512KB flash, 160KB RAM, 80 MHz, 1.71-3.6V, 52 GPIO, WLCSP64
pins: A1 VDDUSB, A2 PA15, A3 PC12, A4 PB4, A5 PB7, A6 PB8, A7 VSS, A8 VDD, B1 VSS, B2 VDD, B3 PC11, B4 PB3, B5 PB6, B6 PH3, B7 VBAT, B8 PC13, C1 PA10, C2 PA13, C3 PA14, C4 PD2, C5 PB5, C6 PB9, C7 PC15, C8 PC14, D1 PA9, D2 PA11, D3 PA12, D4 PC10, D5 PC1, D6 PC2, D7 PC0, D8 PH0, E1 PC7, E2 PC9, E3 PA8, E4 PC4, E5 PA7, E6 PA1, E7 PC3, E8 PH1, F1 PB15, F2 PC6, F3 PC8, F4 PB1, F5 PA5, F6 PA3, F7 VDDA, F8 NRST, G1 PB14, G2 PB13, G3 PB12, G4 PB2, G5 PC5, G6 PA4, G7 PA2, G8 VSSA, H1 VDD, H2 VSS, H3 PB11, H4 PB10, H5 PB0, H6 PA6, H7 VDD, H8 PA0

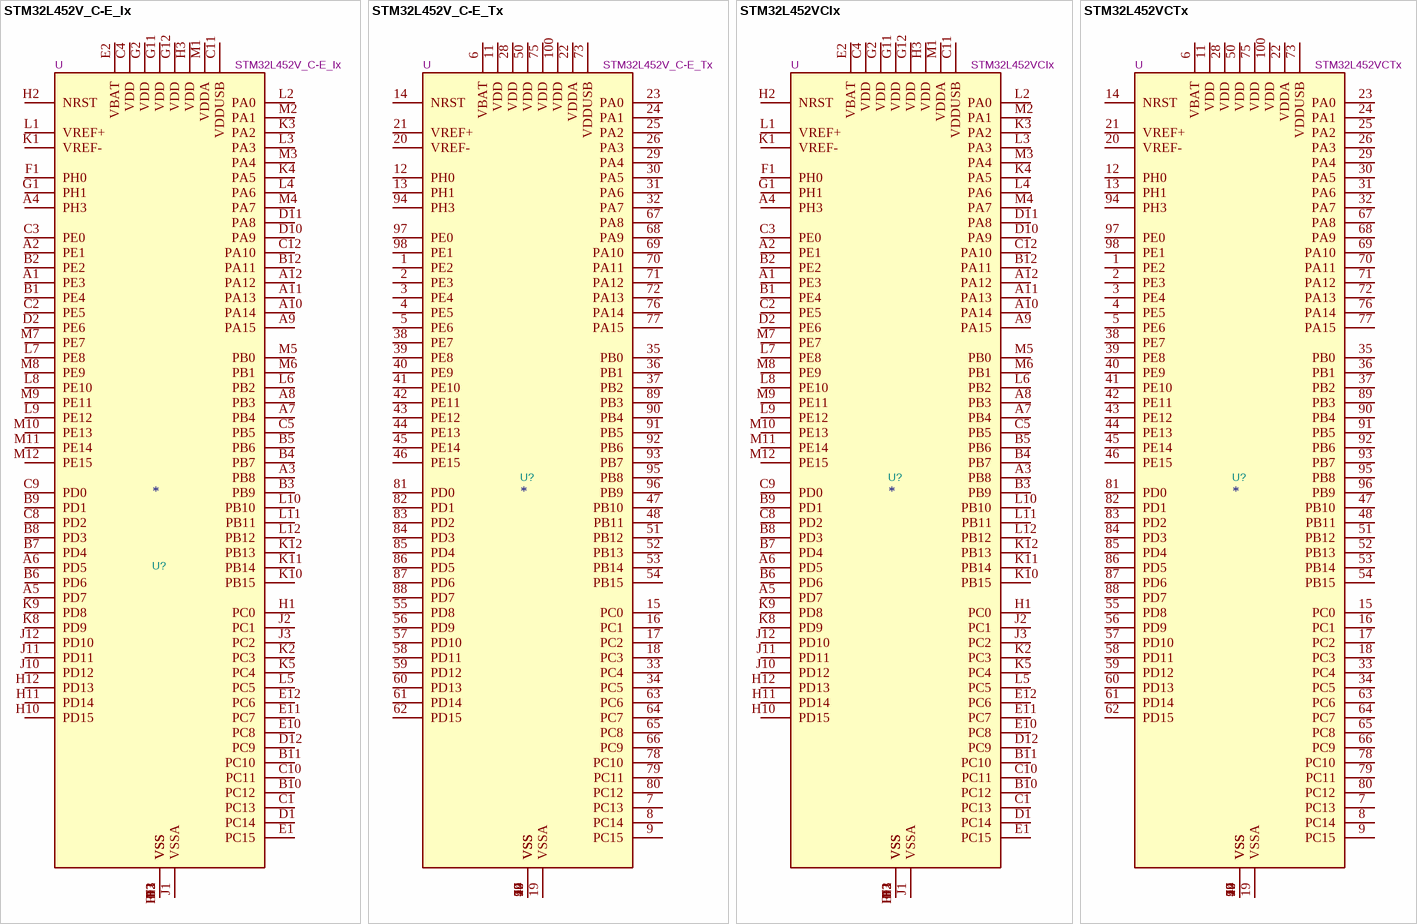
[diagram p44: symbols STM32L452V_C-E_Ix to STM32L452VCTx]

## STM32L452V_C-E_Ix
designator U?  value STM32L452V_C-E_Ix  Reference: U
STMicroelectronics Arm Cortex-M4 MCU, 256-512KB flash, 160KB RAM, 80 MHz, 1.71-3.6V, 83 GPIO, UFBGA100; ki_keywords: Arm Cortex-M4 STM32L4 STM32L4x2; ki_fp_filters: UFBGA*7x7mm*Layout12x12*P0.5mm*; Footprint: Package_BGA:UFBGA-100_7x7mm_Layout12x12_P0.5mm; Datasheet: https://www.st.com/resource/en/datasheet/stm32l452vc.pdf; Description_: STMicroelectronics Arm Cortex-M4 MCU, 256-512KB flash, 160KB RAM, 80 MHz, 1.71-3.6V, 83 GPIO, UFBGA100
pins: A1 PE3, A2 PE1, A3 PB8, A4 PH3, A5 PD7, A6 PD5, A7 PB4, A8 PB3, A9 PA15, A10 PA14, A11 PA13, A12 PA12, B1 PE4, B2 PE2, B3 PB9, B4 PB7, B5 PB6, B6 PD6, B7 PD4, B8 PD3, B9 PD1, B10 PC12, B11 PC10, B12 PA11, C1 PC13, C2 PE5, C3 PE0, C4 VDD, C5 PB5, C8 PD2, C9 PD0, C10 PC11, C11 VDDUSB, C12 PA10, D1 PC14, D2 PE6, D3 VSS, D10 PA9, D11 PA8, D12 PC9, E1 PC15, E2 VBAT, E3 VSS, E10 PC8, E11 PC7, E12 PC6, F1 PH0, F2 VSS, F11 VSS, F12 VSS, G1 PH1, G2 VDD, G11 VDD, G12 VDD, H1 PC0, H2 NRST, H3 VDD, H10 PD15, H11 PD14, H12 PD13, J1 VSSA, J2 PC1, J3 PC2, J10 PD12, J11 PD11, J12 PD10, K1 VREF-, K2 PC3, K3 PA2, K4 PA5, K5 PC4, K8 PD9, K9 PD8, K10 PB15, K11 PB14, K12 PB13, L1 VREF+, L2 PA0, L3 PA3, L4 PA6, L5 PC5, L6 PB2, L7 PE8, L8 PE10, L9 PE12, L10 PB10, L11 PB11, L12 PB12, M1 VDDA, M2 PA1, M3 PA4, M4 PA7, M5 PB0, M6 PB1, M7 PE7, M8 PE9, M9 PE11, M10 PE13, M11 PE14, M12 PE15

## STM32L452V_C-E_Tx
designator U?  value STM32L452V_C-E_Tx  Reference: U
STMicroelectronics Arm Cortex-M4 MCU, 256-512KB flash, 160KB RAM, 80 MHz, 1.71-3.6V, 83 GPIO, LQFP100; ki_keywords: Arm Cortex-M4 STM32L4 STM32L4x2; ki_fp_filters: LQFP*14x14mm*P0.5mm*; Footprint: Package_QFP:LQFP-100_14x14mm_P0.5mm; Datasheet: https://www.st.com/resource/en/datasheet/stm32l452vc.pdf; Description_: STMicroelectronics Arm Cortex-M4 MCU, 256-512KB flash, 160KB RAM, 80 MHz, 1.71-3.6V, 83 GPIO, LQFP100
pins: 1 PE2, 2 PE3, 3 PE4, 4 PE5, 5 PE6, 6 VBAT, 7 PC13, 8 PC14, 9 PC15, 10 VSS, 11 VDD, 12 PH0, 13 PH1, 14 NRST, 15 PC0, 16 PC1, 17 PC2, 18 PC3, 19 VSSA, 20 VREF-, 21 VREF+, 22 VDDA, 23 PA0, 24 PA1, 25 PA2, 26 PA3, 27 VSS, 28 VDD, 29 PA4, 30 PA5, 31 PA6, 32 PA7, 33 PC4, 34 PC5, 35 PB0, 36 PB1, 37 PB2, 38 PE7, 39 PE8, 40 PE9, 41 PE10, 42 PE11, 43 PE12, 44 PE13, 45 PE14, 46 PE15, 47 PB10, 48 PB11, 49 VSS, 50 VDD, 51 PB12, 52 PB13, 53 PB14, 54 PB15, 55 PD8, 56 PD9, 57 PD10, 58 PD11, 59 PD12, 60 PD13, 61 PD14, 62 PD15, 63 PC6, 64 PC7, 65 PC8, 66 PC9, 67 PA8, 68 PA9, 69 PA10, 70 PA11, 71 PA12, 72 PA13, 73 VDDUSB, 74 VSS, 75 VDD, 76 PA14, 77 PA15, 78 PC10, 79 PC11, 80 PC12, 81 PD0, 82 PD1, 83 PD2, 84 PD3, 85 PD4, 86 PD5, 87 PD6, 88 PD7, 89 PB3, 90 PB4, 91 PB5, 92 PB6, 93 PB7, 94 PH3, 95 PB8, 96 PB9, 97 PE0, 98 PE1, 99 VSS, 100 VDD

## STM32L452VCIx
designator U?  value STM32L452VCIx  Reference: U
STMicroelectronics Arm Cortex-M4 MCU, 256KB flash, 160KB RAM, 80 MHz, 1.71-3.6V, 83 GPIO, UFBGA100; ki_keywords: Arm Cortex-M4 STM32L4 STM32L4x2; ki_fp_filters: UFBGA*7x7mm*Layout12x12*P0.5mm*; Footprint: Package_BGA:UFBGA-100_7x7mm_Layout12x12_P0.5mm; Datasheet: https://www.st.com/resource/en/datasheet/stm32l452vc.pdf; Description_: STMicroelectronics Arm Cortex-M4 MCU, 256KB flash, 160KB RAM, 80 MHz, 1.71-3.6V, 83 GPIO, UFBGA100
pins: A1 PE3, A2 PE1, A3 PB8, A4 PH3, A5 PD7, A6 PD5, A7 PB4, A8 PB3, A9 PA15, A10 PA14, A11 PA13, A12 PA12, B1 PE4, B2 PE2, B3 PB9, B4 PB7, B5 PB6, B6 PD6, B7 PD4, B8 PD3, B9 PD1, B10 PC12, B11 PC10, B12 PA11, C1 PC13, C2 PE5, C3 PE0, C4 VDD, C5 PB5, C8 PD2, C9 PD0, C10 PC11, C11 VDDUSB, C12 PA10, D1 PC14, D2 PE6, D3 VSS, D10 PA9, D11 PA8, D12 PC9, E1 PC15, E2 VBAT, E3 VSS, E10 PC8, E11 PC7, E12 PC6, F1 PH0, F2 VSS, F11 VSS, F12 VSS, G1 PH1, G2 VDD, G11 VDD, G12 VDD, H1 PC0, H2 NRST, H3 VDD, H10 PD15, H11 PD14, H12 PD13, J1 VSSA, J2 PC1, J3 PC2, J10 PD12, J11 PD11, J12 PD10, K1 VREF-, K2 PC3, K3 PA2, K4 PA5, K5 PC4, K8 PD9, K9 PD8, K10 PB15, K11 PB14, K12 PB13, L1 VREF+, L2 PA0, L3 PA3, L4 PA6, L5 PC5, L6 PB2, L7 PE8, L8 PE10, L9 PE12, L10 PB10, L11 PB11, L12 PB12, M1 VDDA, M2 PA1, M3 PA4, M4 PA7, M5 PB0, M6 PB1, M7 PE7, M8 PE9, M9 PE11, M10 PE13, M11 PE14, M12 PE15